# Altium schematic symbol library dungvh03-CERN_AnalogInterface.SchLib: 1053 symbols (part 9 of 12)
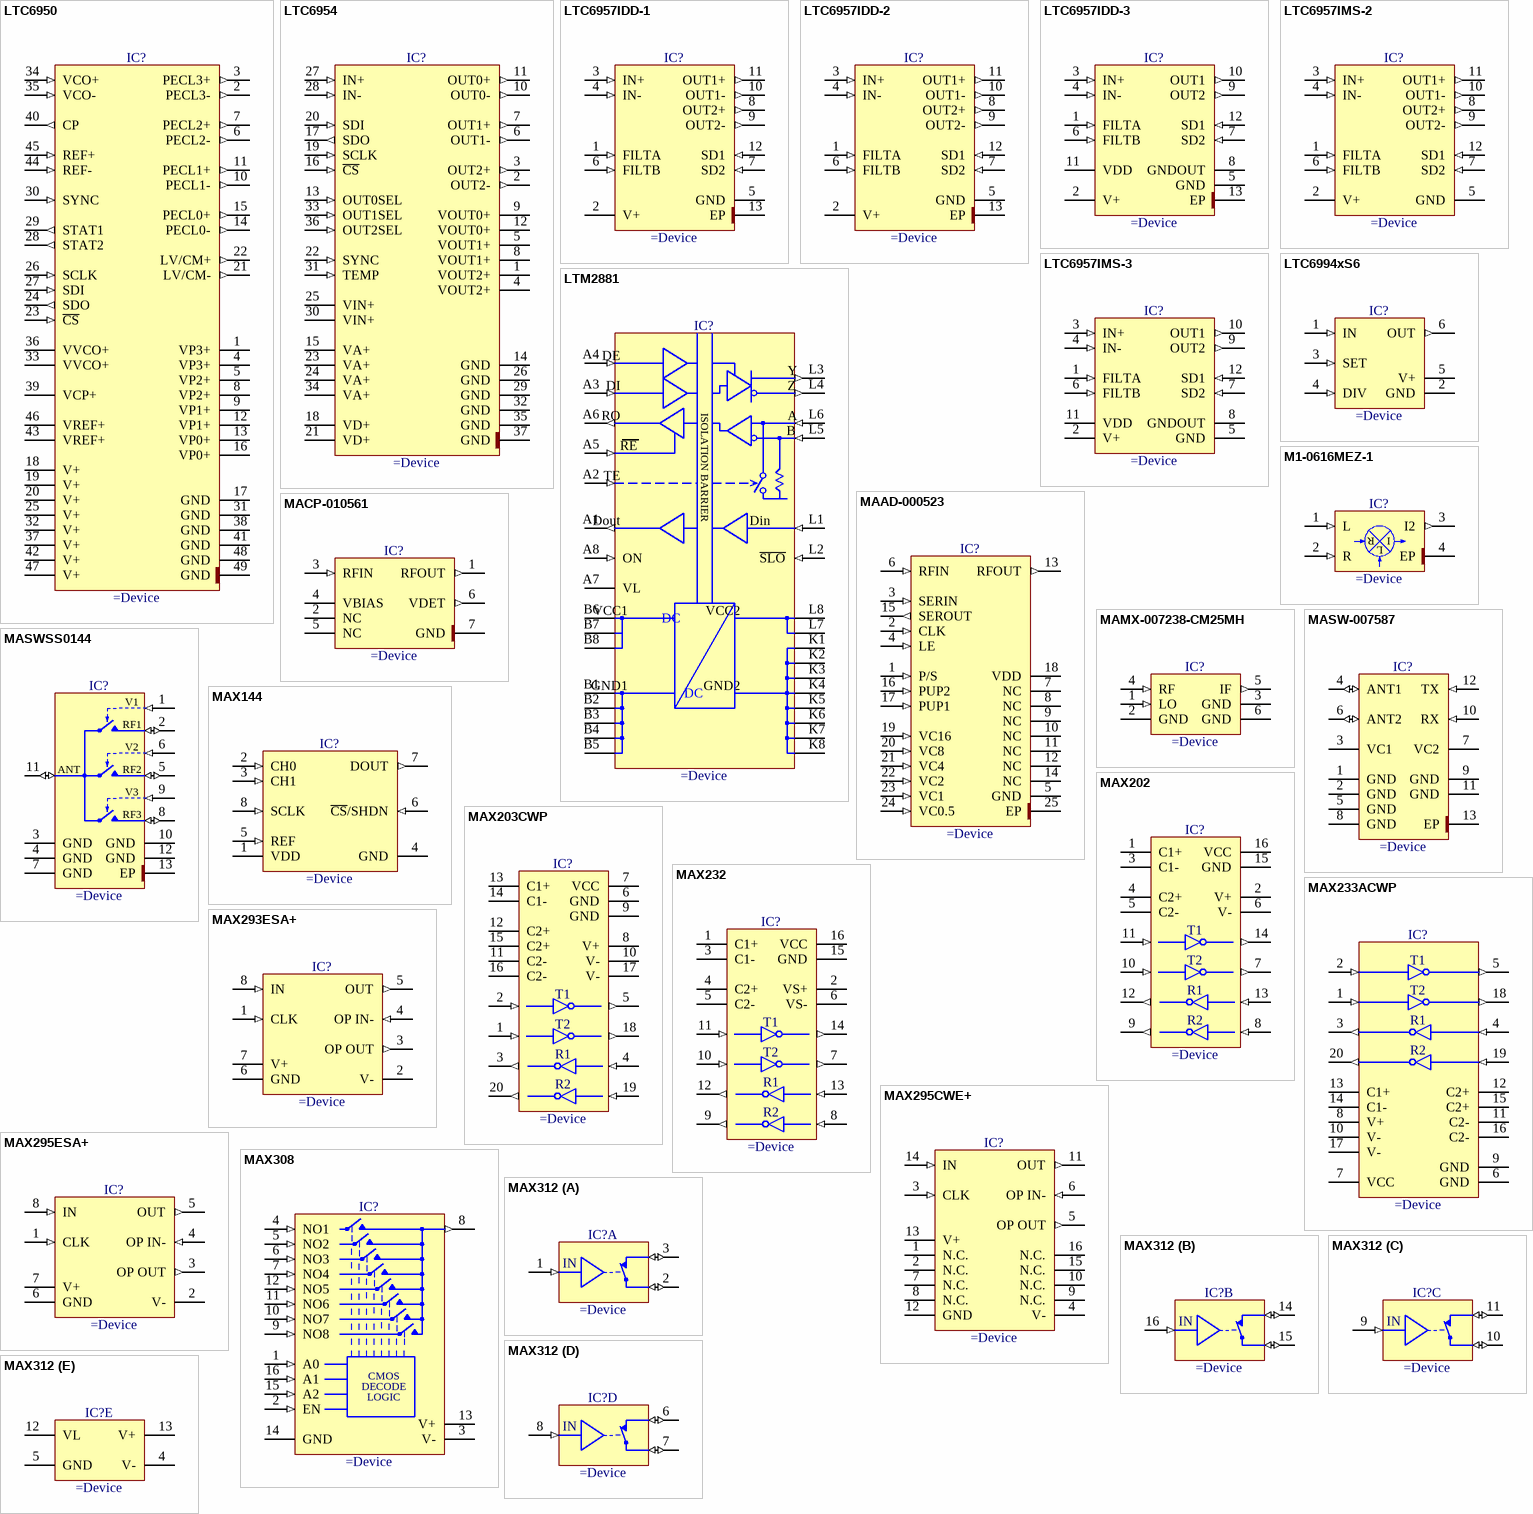
[diagram p75: symbols LTC6950 to MAX312]

## MAX202
designator IC?
+5V, RS-232 Transceivers with 0.1uF External Capacitors
pins: 1 C1+, 2 V+ (power), 3 C1-, 4 C2+, 5 C2-, 6 V- (power), 7 T2OUT (out), 8 R2IN (in), 9 R2OUT (out), 10 T2IN (in), 11 T1IN (in), 12 R1OUT (out), 13 R1IN (in), 14 T1OUT (out), 15 GND (power), 16 VCC (power)
text: T1; T2; R1; R2

## MAX203CWP
designator IC?
+5V, Dual Line RS-232 Transceivers
pins: 1 T2IN (in), 2 T1IN (in), 3 R1OUT (out), 4 R1IN (in), 5 T1OUT (out), 6 GND (power), 7 VCC (power), 8 V+ (power), 9 GND (power), 10 V- (power), 11 C2-, 12 C2+, 13 C1+, 14 C1-, 15 C2+, 16 C2-, 17 V- (power), 18 T2OUT (out), 19 R2IN (in), 20 R2OUT (out)
text: T1; T2; R1; R2

## MAX232
designator IC?
Dual RS232 Driver/Reveiver
pins: 1 C1+, 2 VS+ (power), 3 C1-, 4 C2+, 5 C2-, 6 VS- (power), 7 T2OUT (out), 8 R2IN (in), 9 R2OUT (out), 10 T2IN (in), 11 T1IN (in), 12 R1OUT (out), 13 R1IN (in), 14 T1OUT (out), 15 GND (power), 16 VCC (power)
text: T1; T2; R1; R2

## MAX233ACWP
designator IC?
Dual RS232 Driver/Reveiver (No External Caps, High Slew Rate)
pins: 1 T2IN (in), 2 T1IN (in), 3 R1OUT (out), 4 R1IN (in), 5 T1OUT (out), 6 GND (power), 7 VCC (power), 8 V+ (power), 9 GND (power), 10 V- (power), 11 C2-, 12 C2+, 13 C1+, 14 C1-, 15 C2+, 16 C2-, 17 V- (power), 18 T2OUT (out), 19 R2IN (in), 20 R2OUT (out)
text: T1; T2; R1; R2

## MAX293ESA+
designator IC?
8th-Order, Lowpass, Elliptic Switched-Capacitor Filter
pins: 1 CLK (in), 2 V- (power), 3 OP OUT (out), 4 OP IN- (in), 5 OUT (out), 6 GND (power), 7 V+ (power), 8 IN (in)

## MAX295CWE+
designator IC?
8th-Order, Lowpass, Switched-Capacitor Filter
pins: 1 N.C., 2 N.C., 3 CLK (in), 4 V- (power), 5 OP OUT (out), 6 OP IN- (in), 7 N.C., 8 N.C., 9 N.C., 10 N.C., 11 OUT (out), 12 GND (power), 13 V+ (power), 14 IN (in), 15 N.C., 16 N.C.

## MAX295ESA+
designator IC?
8th-Order, Lowpass, Switched-Capacitor Filter
pins: 1 CLK (in), 2 V- (power), 3 OP OUT (out), 4 OP IN- (in), 5 OUT (out), 6 GND (power), 7 V+ (power), 8 IN (in)

## MAX308
designator IC?
Precision, 8-Channel, High-Performance, CMOS Analog Multiplexer
pins: 1 A0 (in), 2 EN (in), 3 V- (power), 4 NO1 (in), 5 NO2 (in), 6 NO3 (in), 7 NO4 (in), 8 COM (out), 9 NO8 (in), 10 NO7 (in), 11 NO6 (in), 12 NO5 (in), 13 V+ (power), 14 GND (power), 15 A2 (in), 16 A1 (in)
text: CMOS; DECODE; LOGIC

## MAX312
designator IC?
10 Ohms Quad, SPST, CMOS Analog Switches (Normally Closed)
part A pins: 1 IN (in), 2 COM (io), 3 NO (io)
part B pins: 14 NO (io), 15 COM (io), 16 IN (in)
part C pins: 9 IN (in), 10 COM (io), 11 NO (io)
part D pins: 6 NO (io), 7 COM (io), 8 IN (in)
part E pins: 4 V- (power), 5 GND (power), 12 VL (power), 13 V+ (power)

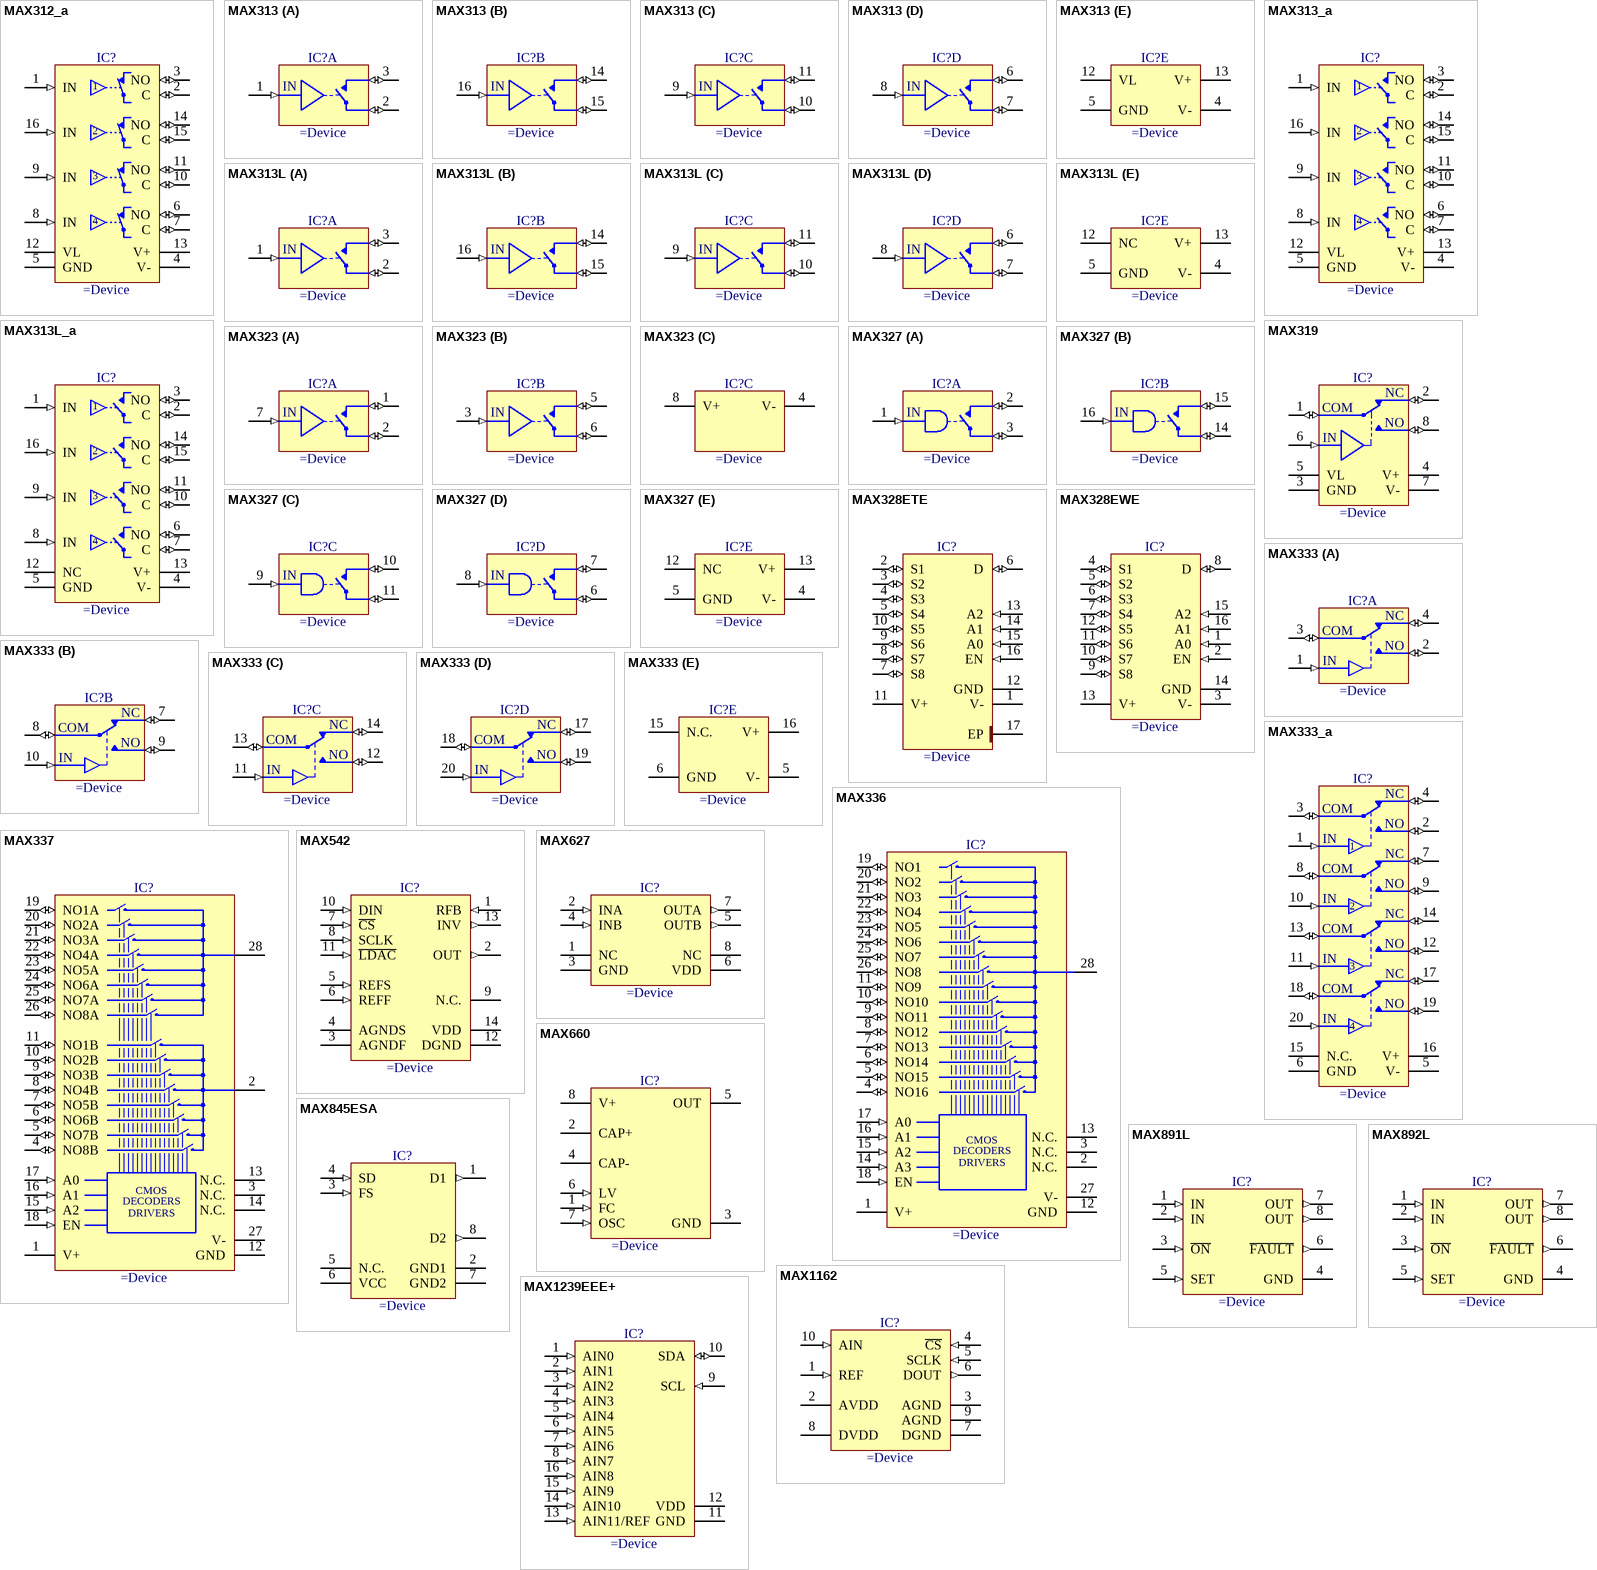
[diagram p45: symbols MAX312_a to MAX1239EEE+]

## MAX312_a
designator IC?
10 Ohms Quad, SPST, CMOS Analog Switches (Normally Closed)
pins: 1 IN (in), 2 C (io), 3 NO (io), 4 V- (power), 5 GND (power), 6 NO (io), 7 C (io), 8 IN (in), 9 IN (in), 10 C (io), 11 NO (io), 12 VL (power), 13 V+ (power), 14 NO (io), 15 C (io), 16 IN (in)

## MAX313
designator IC?
10 Ohms Quad, SPST, CMOS Analog Switches (Normally Open)
part A pins: 1 IN (in), 2 COM (io), 3 NO (io)
part B pins: 14 NO (io), 15 COM (io), 16 IN (in)
part C pins: 9 IN (in), 10 COM (io), 11 NO (io)
part D pins: 6 NO (io), 7 COM (io), 8 IN (in)
part E pins: 4 V- (power), 5 GND (power), 12 VL (power), 13 V+ (power)

## MAX313_a
designator IC?
10 Ohms Quad, SPST, CMOS Analog Switches (Normally Open)
pins: 1 IN (in), 2 C (io), 3 NO (io), 4 V- (power), 5 GND (power), 6 NO (io), 7 C (io), 8 IN (in), 9 IN (in), 10 C (io), 11 NO (io), 12 VL (power), 13 V+ (power), 14 NO (io), 15 C (io), 16 IN (in)

## MAX313L
designator IC?
10 Ohms Quad, SPST, +3V Logic-Compatible Analog Switches (Normally Open)
part A pins: 1 IN (in), 2 COM (io), 3 NO (io)
part B pins: 14 NO (io), 15 COM (io), 16 IN (in)
part C pins: 9 IN (in), 10 COM (io), 11 NO (io)
part D pins: 6 NO (io), 7 COM (io), 8 IN (in)
part E pins: 4 V- (power), 5 GND (power), 12 NC, 13 V+ (power)

## MAX313L_a
designator IC?
10 Ohms Quad, SPST, +3V Logic-Compatible Analog Switches (Normally Open)
pins: 1 IN (in), 2 C (io), 3 NO (io), 4 V- (power), 5 GND (power), 6 NO (io), 7 C (io), 8 IN (in), 9 IN (in), 10 C (io), 11 NO (io), 12 NC, 13 V+ (power), 14 NO (io), 15 C (io), 16 IN (in)

## MAX319
designator IC?
Precision, Single SPDT CMOS Analog Switch
pins: 1 S (io), 2 NC (io), 3 GND (power), 4 V+ (power), 5 VL (power), 6 IN (in), 7 V- (power), 8 NO (io)
text: COM

## MAX323
designator IC?
Precision, Single-Supply, Dual SPST Analog Switches (Normally Open)
part A pins: 1 NO (io), 2 COM (io), 7 IN (in)
part B pins: 3 IN (in), 5 NO (io), 6 COM (io)
part C pins: 4 V- (power), 8 V+ (power)

## MAX327
designator IC?
Quad, SPST, Utra-Low Leakage CMOS Analog Switches (Normally Open)
part A pins: 1 IN (in), 2 NO (io), 3 COM (io)
part B pins: 14 COM (io), 15 NO (io), 16 IN (in)
part C pins: 9 IN (in), 10 NO (io), 11 COM (io)
part D pins: 6 COM (io), 7 NO (io), 8 IN (in)
part E pins: 4 V- (power), 5 GND (power), 12 NC, 13 V+ (power)

## MAX328ETE
designator IC?
Ultra-Low Leakage Monolithic CMOS Analog Multiplexers
pins: 1 V- (power), 2 S1 (io), 3 S2 (io), 4 S3 (io), 5 S4 (io), 6 D (io), 7 S8 (io), 8 S7 (io), 9 S6 (io), 10 S5 (io), 11 V+ (power), 12 GND (power), 13 A2 (in), 14 A1 (in), 15 A0 (in), 16 EN (in), 17 EP (power)

## MAX328EWE
designator IC?
Ultra-Low Leakage Monolithic CMOS Analog Multiplexers
pins: 1 A0 (in), 2 EN (in), 3 V- (power), 4 S1 (io), 5 S2 (io), 6 S3 (io), 7 S4 (io), 8 D (io), 9 S8 (io), 10 S7 (io), 11 S6 (io), 12 S5 (io), 13 V+ (power), 14 GND (power), 15 A2 (in), 16 A1 (in)

## MAX333
designator IC?
Quad SPDT CMOS Analog Switch
part A pins: 1 IN (in), 2 NO (io), 3 COM (io), 4 NC (io)
part B pins: 7 NC (io), 8 COM (io), 9 NO (io), 10 IN (in)
part C pins: 11 IN (in), 12 NO (io), 13 COM (io), 14 NC (io)
part D pins: 17 NC (io), 18 COM (io), 19 NO (io), 20 IN (in)
part E pins: 5 V- (power), 6 GND (power), 15 N.C., 16 V+ (power)

## MAX333_a
designator IC?
Quad SPDT CMOS Analog Switch
pins: 1 IN1 (in), 2 NO1 (io), 3 COM1 (io), 4 NC1 (io), 5 V- (power), 6 GND (power), 7 NC2 (io), 8 COM2 (io), 9 NO2 (io), 10 IN2 (in), 11 IN3 (in), 12 NO3 (io), 13 COM3 (io), 14 NC3 (io), 15 N.C., 16 V+ (power), 17 NC4 (io), 18 COM4 (io), 19 NO4 (io), 20 IN4 (in)
text: NC; COM; NO; IN

## MAX336
designator IC?
16-Channel, Low-Leakage, CMOS Analog Multiplexers
pins: 1 V+ (power), 2 N.C., 3 N.C., 4 NO16 (io), 5 NO15 (io), 6 NO14 (io), 7 NO13 (io), 8 NO12 (io), 9 NO11 (io), 10 NO10 (io), 11 NO9 (io), 12 GND (power), 13 N.C., 14 A3 (in), 15 A2 (in), 16 A1 (in), 17 A0 (in), 18 EN (in), 19 NO1 (io), 20 NO2 (io), 21 NO3 (io), 22 NO4 (io), 23 NO5 (io), 24 NO6 (io), 25 NO7 (io), 26 NO8 (io), 27 V- (power), 28 COM (power)
text: CMOS; DECODERS; DRIVERS

## MAX337
designator IC?
Dual 8-Channel, Low-Leakage, CMOS Analog Multiplexers
pins: 1 V+ (power), 2 COMB, 3 N.C., 4 NO8B (io), 5 NO7B (io), 6 NO6B (io), 7 NO5B (io), 8 NO4B (io), 9 NO3B (io), 10 NO2B (io), 11 NO1B (io), 12 GND (power), 13 N.C., 14 N.C., 15 A2 (in), 16 A1 (in), 17 A0 (in), 18 EN (in), 19 NO1A (io), 20 NO2A (io), 21 NO3A (io), 22 NO4A (io), 23 NO5A (io), 24 NO6A (io), 25 NO7A (io), 26 NO8A (io), 27 V- (power), 28 COMA (power)
text: CMOS; DECODERS; DRIVERS

## MAX542
designator IC?
+5V, Serial-Input, Voltage-Output, 16-Bit ±1LSB DAC
pins: 1 RFB (in), 2 OUT (out), 3 AGNDF (power), 4 AGNDS (power), 5 REFS (in), 6 REFF (in), 7 ~{CS} (in), 8 SCLK (in), 9 N.C., 10 DIN (in), 11 ~{LDAC} (in), 12 DGND (power), 13 INV (out), 14 VDD (power)

## MAX627
designator IC?
Dual Power MOSFET Drivers
pins: 1 NC, 2 INA (in), 3 GND (power), 4 INB (in), 5 OUTB (out), 6 VDD (power), 7 OUTA (out), 8 NC

## MAX660
designator IC?
CMOS Monolithic Voltage Converter
pins: 1 FC (in), 2 CAP+, 3 GND (power), 4 CAP-, 5 OUT (power), 6 LV (in), 7 OSC (in), 8 V+ (power)

## MAX845ESA
designator IC?
Isolated Transformer Driver for PCMCIA Applications
pins: 1 D1 (out) "Voltage Reference", 2 GND1 (power) "Non-Inverting Input", 3 FS (in) "Ground", 4 SD (in) "Ground", 5 N.C. "Chip Select Bar", 6 VCC (power) "Inverting Input", 7 GND2 (power) "Serial Data Output", 8 D2 (out) "Serial Clock"

## MAX891L
designator IC?
Current-Limited, High-Side P-Channel Switches with Thermal Shutdown
pins: 1 IN (in), 2 IN (in), 3 ~{ON} (in), 4 GND (power), 5 SET (in), 6 ~{FAULT} (out), 7 OUT (out), 8 OUT (out)

## MAX892L
designator IC?
Current-Limited, High-Side P-Channel Switches with Thermal Shutdown
pins: 1 IN (in), 2 IN (in), 3 ~{ON} (in), 4 GND (power), 5 SET (in), 6 ~{FAULT} (out), 7 OUT (out), 8 OUT (out)

## MAX1162
designator IC?
16-Bit, +5V, 200ksps ADC with 10uA Shutdown
pins: 1 REF (in) "External Reference Voltage Input", 2 AVDD (power) "Analog +5V Supply Voltage.", 3 AGND (power) "Analog Ground", 4 ~{CS} (in) "Active-Low Chip-Select Input", 5 SCLK (in) "Serial Clock Input", 6 DOUT (out) "Serial Data Output", 7 DGND (power) "Digital Ground", 8 DVDD (power) "Digital Supply Voltage.", 9 AGND (power) "Analog Ground.", 10 AIN (in) "Analog Input"

## MAX1239EEE+
designator IC?
2.7V to 3.6V, Low-Power, 12 Input Channels, 2-Wire Serial, 12-Bit ADC
pins: 1 AIN0 (in), 2 AIN1 (in), 3 AIN2 (in), 4 AIN3 (in), 5 AIN4 (in), 6 AIN5 (in), 7 AIN6 (in), 8 AIN7 (in), 9 SCL (in), 10 SDA (io), 11 GND (power), 12 VDD (power), 13 AIN11/REF (in), 14 AIN10 (in), 15 AIN9 (in), 16 AIN8 (in)

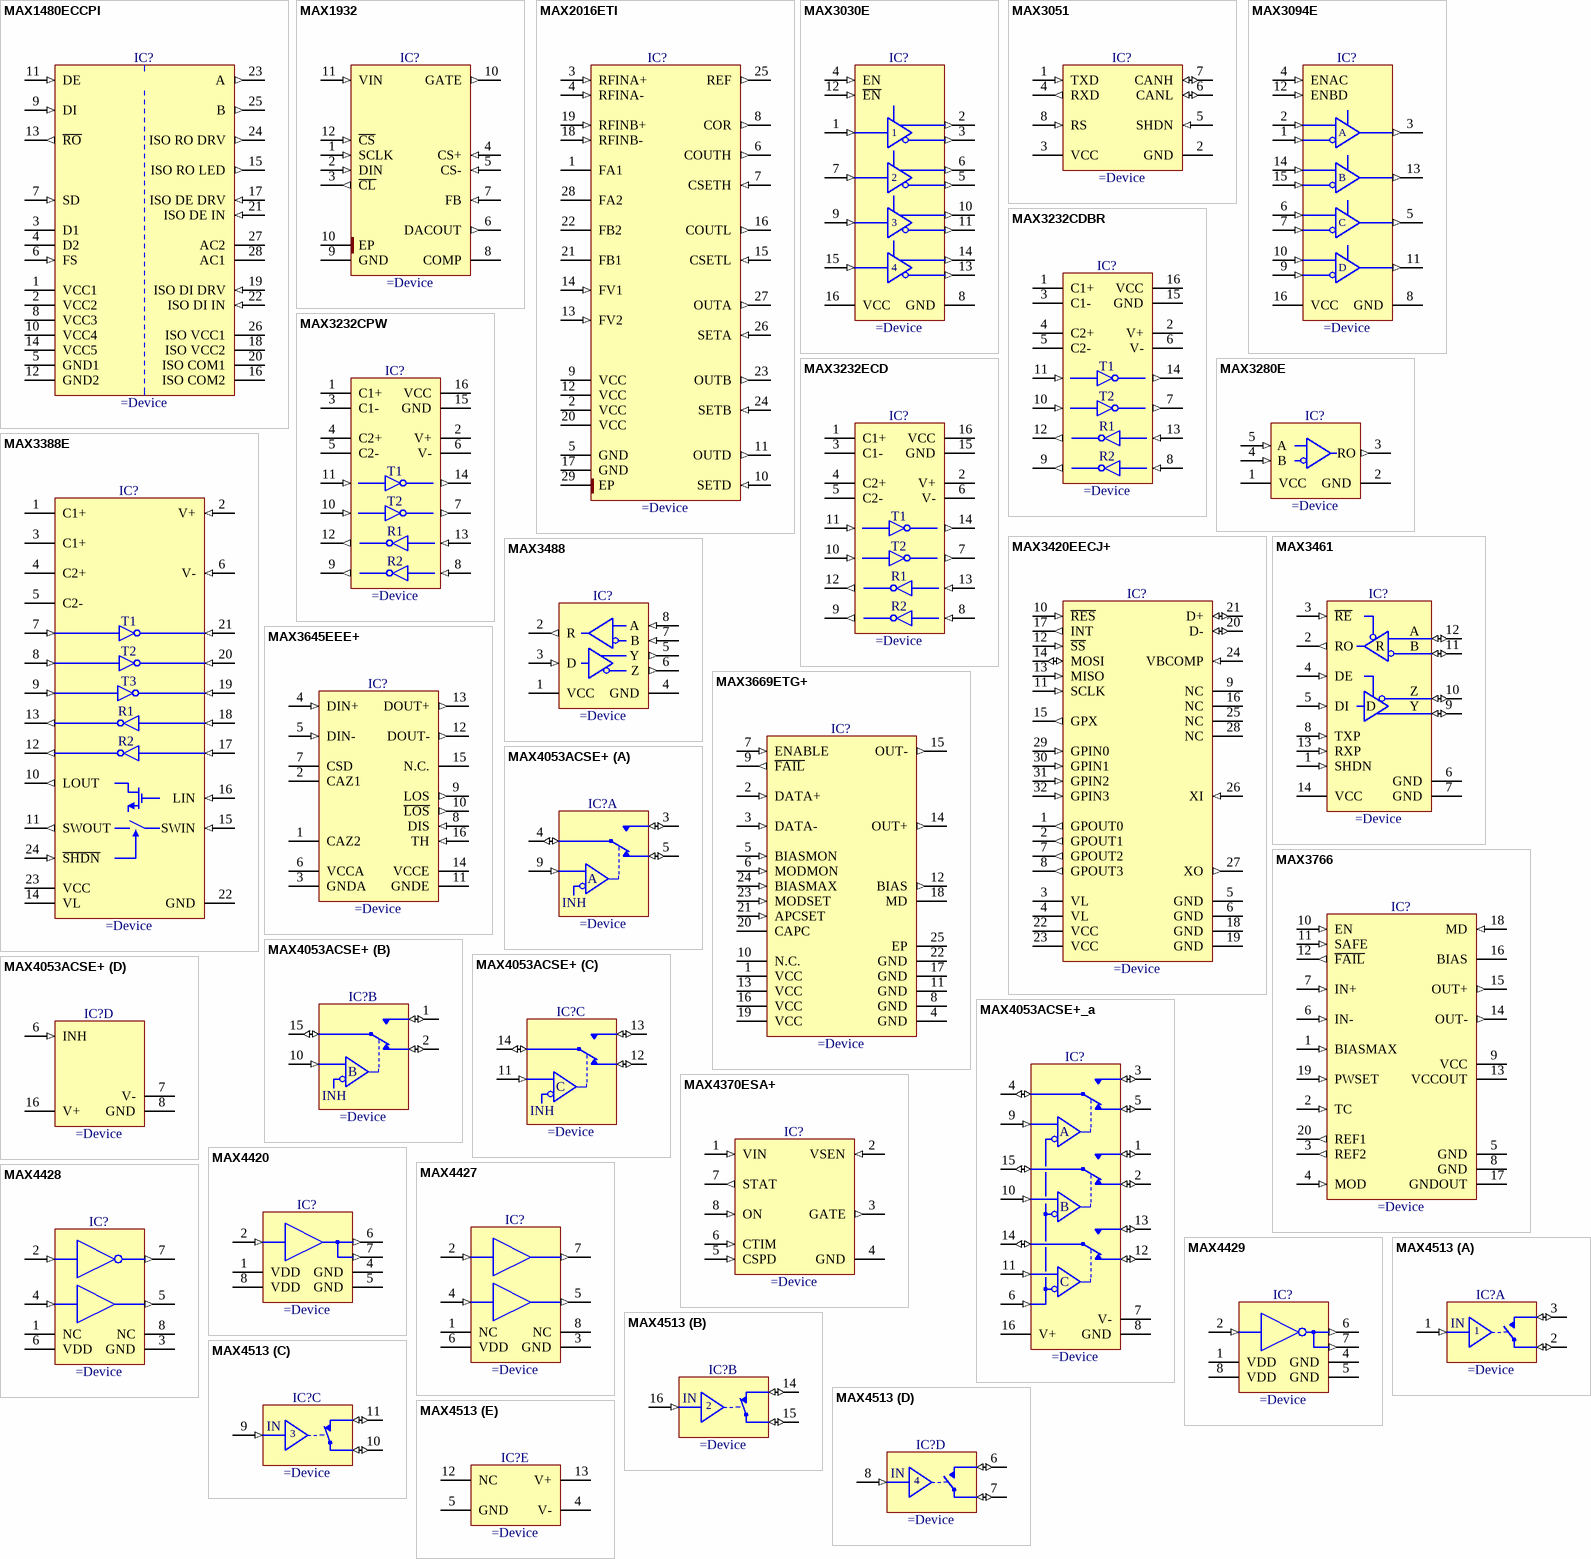
[diagram p46: symbols MAX1480ECCPI to MAX4513]

## MAX1480ECCPI
designator IC?
±15kV ESD-Protected, Isolated RS-485/RS-422 Data Interface
pins: 1 VCC1 (power), 2 VCC2 (power), 3 D1, 4 D2, 5 GND1 (power), 6 FS (in), 7 SD (in), 8 VCC3 (power), 9 DI (in), 10 VCC4 (power), 11 DE (in), 12 GND2 (power), 13 ~{RO} (out), 14 VCC5 (power), 15 ISO RO LED (out), 16 ISO COM2 (power), 17 ISO DE DRV (in), 18 ISO VCC2 (power), 19 ISO DI DRV (in), 20 ISO COM1 (power), 21 ISO DE IN (in), 22 ISO DI IN (in), 23 A (out), 24 ISO RO DRV (out), 25 B (out), 26 ISO VCC1 (power), 27 AC2, 28 AC1

## MAX1932
designator IC?
Digitally Controlled, 0.5% Accurate, Safest APD Bias Supply
pins: 1 SCLK (in), 2 DIN (in), 3 ~{CL} (out), 4 CS+ (in), 5 CS- (in), 6 DACOUT (out), 7 FB (in), 8 COMP, 9 GND (power), 10 GATE (out), 10 EP (power), 11 VIN (in), 12 ~{CS} (in)

## MAX2016ETI
designator IC?
LF-to-2.5GHz Dual Logarithmic Detector/Controller for Power, Gain, and VSWR Measurements
pins: 1 FA1, 2 VCC (power), 3 RFINA+ (in), 4 RFINA- (in), 5 GND (power), 6 COUTH (out), 7 CSETH (in), 8 COR (out), 9 VCC (power), 10 SETD (in), 11 OUTD (out), 12 VCC (power), 13 FV2 (in), 14 FV1 (in), 15 CSETL (in), 16 COUTL (out), 17 GND (power), 18 RFINB- (in), 19 RFINB+ (in), 20 VCC (power), 21 FB1, 22 FB2, 23 OUTB (out), 24 SETB (in), 25 REF (out), 26 SETA (in), 27 OUTA (out), 28 FA2, 29 EP (power)

## MAX3030E
designator IC?
±15kV ESD-Protected, 3.3V Quad RS-422 Transmitter
pins: 1 DI1 (in), 2 DO1+ (out), 3 DO1- (out), 4 EN (in), 5 DO2- (out), 6 DO2+ (out), 7 DI2 (in), 8 GND (power), 9 DI3 (in), 10 DO3+ (out), 11 DO3- (out), 12 ~{EN} (in), 13 DO4- (out), 14 DO4+ (out), 15 DI4 (in), 16 VCC (power)

## MAX3051
designator IC?
+3.3V, 1Mbps, Low-Supply-Current CAN Transceiver
pins: 1 TXD (in), 2 GND (power), 3 VCC (power), 4 RXD (out), 5 SHDN (in), 6 CANL (io), 7 CANH (io), 8 RS (in)

## MAX3094E
designator IC?
±15kV ESD-Protected, 10Mbps, 3V, Low-Power Quad RS-422/RS-485 Receivers
pins: 1 A- (in), 2 A+ (in), 3 YA (out), 4 ENAC (in), 5 YC (out), 6 C+ (in), 7 C- (in), 8 GND (power), 9 D- (in), 10 D+ (in), 11 YD (out), 12 ENBD (in), 13 YB (out), 14 B+ (in), 15 B- (in), 16 VCC (power)
text: A; B; C; D

## MAX3232CDBR
designator IC?
3-V To 5.5-V Multichannel RS-232 Line Driver/Receiver With ±15kV IEC ESD Protection
pins: 1 C1+, 2 V+ (power), 3 C1-, 4 C2+, 5 C2-, 6 V- (power), 7 T2OUT (out), 8 R2IN (in), 9 R2OUT (out), 10 T2IN (in), 11 T1IN (in), 12 R1OUT (out), 13 R1IN (in), 14 T1OUT (out), 15 GND (power), 16 VCC (power)
text: T1; T2; R1; R2

## MAX3232CPW
designator IC?
3-V To 5.5-V Multichannel RS-232 Line Driver/Receiver With ±15kV IEC ESD Protection
pins: 1 C1+, 2 V+ (power), 3 C1-, 4 C2+, 5 C2-, 6 V- (power), 7 T2OUT (out), 8 R2IN (in), 9 R2OUT (out), 10 T2IN (in), 11 T1IN (in), 12 R1OUT (out), 13 R1IN (in), 14 T1OUT (out), 15 GND (power), 16 VCC (power)
text: T1; T2; R1; R2

## MAX3232ECD
designator IC?
3-V To 5.5-V Multichannel RS-232 Line Driver/Receiver With ±15kV IEC ESD Protection
pins: 1 C1+, 2 V+ (power), 3 C1-, 4 C2+, 5 C2-, 6 V- (power), 7 T2OUT (out), 8 R2IN (in), 9 R2OUT (out), 10 T2IN (in), 11 T1IN (in), 12 R1OUT (out), 13 R1IN (in), 14 T1OUT (out), 15 GND (power), 16 VCC (power)
text: T1; T2; R1; R2

## MAX3280E
designator IC?
±15kV ESD-Protected 52Mbps, 3V to 5.5V, RS-485/RS-422 True Fail-Safe Receiver
pins: 1 VCC (power), 2 GND (power), 3 RO (out), 4 B (in), 5 A (in)

## MAX3388E
designator IC?
2.5V, ±15kV ESD-Protected RS-232 Transceivers for PDAs and Cell Phones
footprint TSOP65P640-24AN (TSOP, 24-Leads, Body 7.8x4.4mm, Pitch 0.65mm, IPC Medium Density)
pins: 1 C1+, 2 V+ (in), 3 C1+, 4 C2+, 5 C2-, 6 V- (in), 7 T1IN (in), 8 T2IN (in), 9 T3IN (in), 10 LOUT (out), 11 SWOUT (out), 12 R2OUT (out), 13 R1OUT (out), 14 VL (power), 15 SWIN (in), 16 LIN (in), 17 R2IN (in), 18 R1IN (in), 19 T3OUT (in), 20 T2OUT (in), 21 T1OUT (in), 22 GND (power), 23 VCC (power), 24 ~{SHDN} (in)
text: T1; T2; T3; R1; R2

## MAX3420EECJ+
designator IC?
USB Peripheral Controller with SPI Interface
pins: 1 GPOUT0 (out), 2 GPOUT1 (out), 3 VL (power), 4 VL (power), 5 GND (power), 6 GND (power), 7 GPOUT2 (out), 8 GPOUT3 (out), 9 NC, 10 ~{RES} (in), 11 SCLK (in), 12 ~{SS} (in), 13 MISO (in), 14 MOSI (io), 15 GPX (out), 16 NC, 17 INT (out), 18 GND (power), 19 GND (power), 20 D- (io), 21 D+ (io), 22 VCC (power), 23 VCC (power), 24 VBCOMP (in), 25 NC, 26 XI (in), 27 XO (out), 28 NC, 29 GPIN0 (in), 30 GPIN1 (in), 31 GPIN2 (in), 32 GPIN3 (in)

## MAX3461
designator IC?
+5V, Fail-Safe, 20Mbps, Full Duplex Profibus RS-485/RS-422 Transceiver
pins: 1 SHDN (in), 2 RO (out), 3 ~{RE} (in), 4 DE (in), 5 DI (in), 6 GND (power), 7 GND (power), 8 TXP (in), 9 Y (io), 10 Z (io), 11 B (io), 12 A (io), 13 RXP (in), 14 VCC (power)
text: R; D

## MAX3488
designator IC?
3.3V-Powered, ±15kV ESD-Protected, 0.25 Mbps and Slew-Rate-Limited True RS-485/RS-422 Transceiver
pins: 1 VCC (power), 2 R (out), 3 D (in), 4 GND (power), 5 Y (out), 6 Z (out), 7 B (in), 8 A (in)

## MAX3645EEE+
designator IC?
+2.97V to +5.5V, 125Mbps to 200Mbps Limiting Amplifier with Loss-of-Signal Detector
pins: 1 CAZ2, 2 CAZ1, 3 GNDA (power), 4 DIN+ (in), 5 DIN- (in), 6 VCCA (power), 7 CSD, 8 DIS (in), 9 LOS (out), 10 ~{LOS} (out), 11 GNDE (power), 12 DOUT- (out), 13 DOUT+ (out), 14 VCCE (power), 15 N.C., 16 TH (in)

## MAX3669ETG+
designator IC?
+3.3V, 622Mbps SDH/SONET Laser Driver with Current Monitors and APC
pins: 1 VCC (power), 2 DATA+ (in), 3 DATA- (in), 4 GND (power), 5 BIASMON (in), 6 MODMON (in), 7 ENABLE (in), 8 GND (power), 9 ~{FAIL} (out), 10 N.C., 11 GND (power), 12 BIAS (out), 13 VCC (power), 14 OUT+ (out), 15 OUT- (out), 16 VCC, 17 GND (power), 18 MD, 19 VCC (power), 20 CAPC, 21 APCSET (in), 22 GND (power), 23 MODSET (in), 24 BIASMAX (in), 25 EP (power)

## MAX3766
designator IC?
622Mbps LAN/WAN Laser Driver with Automatic Power Control and Safety Shutdown
pins: 1 BIASMAX (in), 2 TC (in), 3 REF2 (out), 4 MOD (in), 5 GND (power), 6 IN- (in), 7 IN+ (in), 8 GND (power), 9 VCC (power), 10 EN (in), 11 SAFE (in), 12 ~{FAIL} (out), 13 VCCOUT (power), 14 OUT- (out), 15 OUT+ (out), 16 BIAS, 17 GNDOUT (power), 18 MD (in), 19 PWSET (in), 20 REF1 (out)

## MAX4053ACSE+
designator IC?
Low-Voltage, 3-Channel CMOS Analog Multiplexers/Switches
part A pins: 3 NOA (io), 4 COMA (io), 5 NCA (io), 9 ADDA (in)
part B pins: 1 NOB (io), 2 NCB (io), 10 ADDB (in), 15 COMB (io)
part C pins: 11 ADDC (in), 12 NCC (io), 13 NOC (io), 14 COMC (io)
part D pins: 6 INH (in), 7 V- (power), 8 GND (power), 16 V+ (power)
part A text: A
part B text: B
part C text: C

## MAX4053ACSE+_a
designator IC?
Low-Voltage, 3-Channel CMOS Analog Multiplexers/Switches
pins: 1 NOB (io), 2 NCB (io), 3 NOA (io), 4 COMA (io), 5 NCA (io), 6 INH (in), 7 V- (power), 8 GND (power), 9 ADDA (in), 10 ADDB (in), 11 ADDC (in), 12 NCC (io), 13 NOC (io), 14 COMC (io), 15 COMB (io), 16 V+ (power)
text: A; B; C

## MAX4370ESA+
designator IC?
Current-Regulating Hot-Swap Controller with DualSpeed/BiLevel Fault Protection
pins: 1 VIN (in), 2 VSEN (in), 3 GATE (out), 4 GND (power), 5 CSPD (in), 6 CTIM (in), 7 STAT (out), 8 ON (in)

## MAX4420
designator IC?
Single MOSFET Driver, Non-Inverting Outputs
pins: 1 VDD (power), 2 IN (in), 4 GND (power), 5 GND (power), 6 OUT (out), 7 OUT (out), 8 VDD (power)

## MAX4427
designator IC?
Dual High-Speed 1.5A Noninverting MOSFET Drivers
pins: 1 NC, 2 IN (in), 3 GND (power), 4 IN (in), 5 OUT (out), 6 VDD (power), 7 OUT (out), 8 NC

## MAX4428
designator IC?
Dual High-Speed 1.5A Inverting/Noninverting MOSFET Drivers
pins: 1 NC, 2 IN (in), 3 GND (power), 4 IN (in), 5 OUT (out), 6 VDD (power), 7 ~{OUTA} (out), 8 NC

## MAX4429
designator IC?
Single MOSFET Driver, Inverting Outputs
pins: 1 VDD (power), 2 IN (in), 4 GND (power), 5 GND (power), 6 OUT (out), 7 OUT (out), 8 VDD (power)

## MAX4513
designator IC?
Quad, Rail-to-Rail, Fault-Protected, SPST Analog Switches (2 Normally Open + 2 Normally Close)
part A pins: 1 IN (in), 2 COM (io), 3 NO (io)
part B pins: 14 NC (io), 15 COM (io), 16 IN (in)
part C pins: 9 IN (in), 10 COM (io), 11 NC (io)
part D pins: 6 NO (io), 7 COM (io), 8 IN (in)
part E pins: 4 V- (power), 5 GND (power), 12 NC, 13 V+ (power)

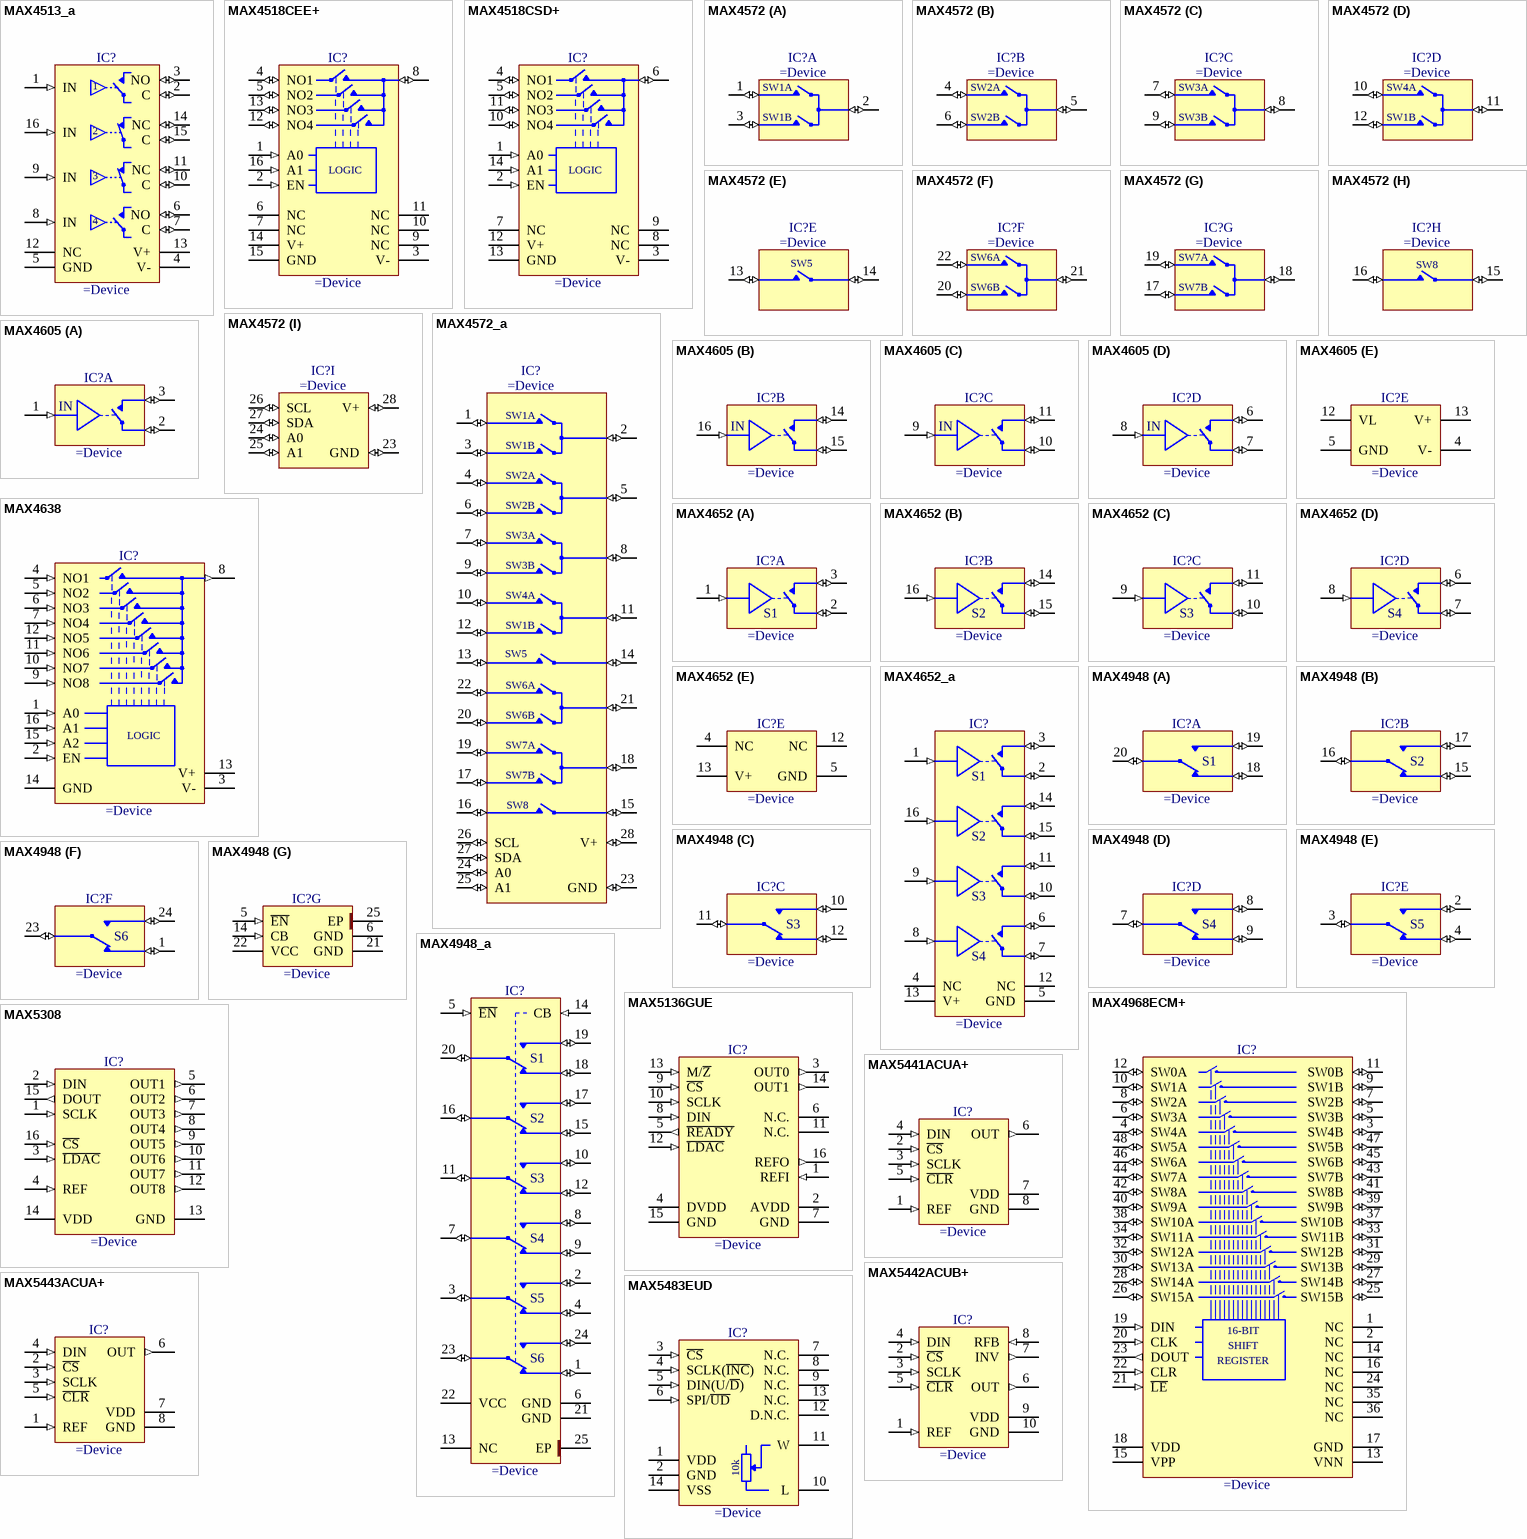
[diagram p47: symbols MAX4513_a to MAX5483EUD]

## MAX4513_a
designator IC?
Rail-to-Rail, Fault-Protected, SPST Analog Switches (2 Normally Open + 2 Normally Close)
pins: 1 IN (in), 2 C (io), 3 NO (io), 4 V- (power), 5 GND (power), 6 NO (io), 7 C (io), 8 IN (in), 9 IN (in), 10 C (io), 11 NC (io), 12 NC, 13 V+ (power), 14 NC (io), 15 C (io), 16 IN (in)

## MAX4518CEE+
designator IC?
Precision, 4-Channel Low-Voltage, CMOS Analog Multiplexer
pins: 1 A0 (in), 2 EN (in), 3 V- (power), 4 NO1 (io), 5 NO2 (io), 6 NC, 7 NC, 8 COM (io), 9 NC, 10 NC, 11 NC, 12 NO4 (io), 13 NO3 (io), 14 V+ (power), 15 GND (power), 16 A1 (in)
text: LOGIC

## MAX4518CSD+
designator IC?
Precision, 4-Channel Low-Voltage, CMOS Analog Multiplexer
pins: 1 A0 (in), 2 EN (in), 3 V- (power), 4 NO1 (io), 5 NO2 (io), 6 COM (io), 7 NC, 8 NC, 9 NC, 10 NO4 (io), 11 NO3 (io), 12 V+ (power), 13 GND (power), 14 A1 (in)
text: LOGIC

## MAX4572
designator IC?
2 x SPST + 6 x SPDT, Serially Controlled, Clickless Audio/Video Switches
part A pins: 1 NO (io), 2 COM (io), 3 NO (io)
part B pins: 4 NO (io), 5 COM (io), 6 NO (io)
part C pins: 7 NO (io), 8 COM (io), 9 NO (io)
part D pins: 10 NO (io), 11 COM (io), 12 NO (io)
part E pins: 13 NO (io), 14 COM (io)
part F pins: 20 NO (io), 21 COM (io), 22 NO (io)
part G pins: 17 NO (io), 18 COM (io), 19 NO (io)
part H pins: 15 COM (io), 16 NO (io)
part I pins: 23 GND (io), 24 A0 (io), 25 A1 (io), 26 SCL (io), 27 SDA (io), 28 V+ (io)
part A text: SW1A; SW1B
part B text: SW2A; SW2B
part C text: SW3A; SW3B
part D text: SW4A; SW1B
part E text: SW5
part F text: SW6A; SW6B
part G text: SW7A; SW7B
part H text: SW8

## MAX4572_a
designator IC?
2 x SPST + 6 x SPDT, Serially Controlled, Clickless Audio/Video Switches
pins: 1 NO1A (io), 2 COM1 (io), 3 NO1B (io), 4 NO2A (io), 5 COM2 (io), 6 NO2B (io), 7 NO3A (io), 8 COM3 (io), 9 NO3B (io), 10 NO4A (io), 11 COM4 (io), 12 NO4B (io), 13 NO5 (io), 14 VOM5 (io), 15 COM8 (io), 16 NO8 (io), 17 NO7B (io), 18 COM7 (io), 19 NO7A (io), 20 NO6B (io), 21 COM6 (io), 22 NO6A (io), 23 GND (io), 24 A0 (io), 25 A1 (io), 26 SCL (io), 27 SDA (io), 28 V+ (io)
text: SW1A; SW1B; SW2A; SW2B; SW3A; SW3B; SW4A; SW5; SW6A; SW6B; SW7A; SW7B; SW8

## MAX4605
designator IC?
5 Ohms Quad, SPST, CMOS Analog Switches
part A pins: 1 IN (in), 2 COM (io), 3 NO (io)
part B pins: 14 NO (io), 15 COM (io), 16 IN (in)
part C pins: 9 IN (in), 10 COM (io), 11 NO (io)
part D pins: 6 NO (io), 7 COM (io), 8 IN (in)
part E pins: 4 V- (power), 5 GND (power), 12 VL (power), 13 V+ (power)

## MAX4638
designator IC?
3.5 Ohms, Single 8:1 and Dual 4:1, Low-Voltage Analog Multiplexers
pins: 1 A0 (in), 2 EN (in), 3 V- (power), 4 NO1 (in), 5 NO2 (in), 6 NO3 (in), 7 NO4 (in), 8 COM (out), 9 NO8 (in), 10 NO7 (in), 11 NO6 (in), 12 NO5 (in), 13 V+ (power), 14 GND (power), 15 A2 (in), 16 A1 (in)
text: LOGIC

## MAX4652
designator IC?
Low Voltage, 4 Ohm, Quad, SPST, CMOS Analog Switches (Normally Open)
part A pins: 1 IN (in), 2 COM (io), 3 NO (io)
part B pins: 14 NO (io), 15 COM (io), 16 IN (in)
part C pins: 9 IN (in), 10 COM (io), 11 NO (io)
part D pins: 6 NO (io), 7 COM (io), 8 IN (in)
part E pins: 4 NC, 5 GND (power), 12 NC, 13 V+ (power)
part A text: S1
part B text: S2
part C text: S3
part D text: S4

## MAX4652_a
designator IC?
Low Voltage, 4 Ohm, Quad, SPST, CMOS Analog Switches (Normally Open)
pins: 1 IN1 (in), 2 COM1 (io), 3 NO1 (io), 4 NC, 5 GND (power), 6 NO4 (io), 7 COM4 (io), 8 IN4 (in), 9 IN3 (in), 10 COM3 (io), 11 NO3 (io), 12 NC, 13 V+ (power), 14 NO2 (io), 15 COM2 (io), 16 IN2 (in)
text: S1; S2; S3; S4

## MAX4948
designator IC?
Hex SPDT Data Switch
part A pins: 18 NC (io), 19 NO (io), 20 COM (io)
part B pins: 15 NC (io), 16 COM (io), 17 NO (io)
part C pins: 10 NO (io), 11 COM (io), 12 NC (io)
part D pins: 7 COM (io), 8 NO (io), 9 NC (io)
part E pins: 2 NO (io), 3 COM (io), 4 NC (io)
part F pins: 1 NC (io), 23 COM (io), 24 NO (io)
part G pins: 5 ~{EN} (in), 6 GND (power), 14 CB (in), 21 GND (power), 22 VCC (power), 25 EP (power)
part A text: S1
part B text: S2
part C text: S3
part D text: S4
part E text: S5
part F text: S6

## MAX4948_a
designator IC?
Hex SPDT Data Switch
pins: 1 NC6 (io), 2 NO5 (io), 3 COM5 (io), 4 NC5 (io), 5 ~{EN} (in), 6 GND (power), 7 COM4 (io), 8 NO4 (io), 9 NC4 (io), 10 NO3 (io), 11 COM3 (io), 12 NC3 (io), 13 NC, 14 CB (in), 15 NC2 (io), 16 COM2 (io), 17 NO2 (io), 18 NC1 (io), 19 NO1 (io), 20 COM1 (io), 21 GND (power), 22 VCC (power), 23 COM6 (io), 24 NO6 (io), 25 EP (power)
text: S1; S2; S3; S4; S5; S6

## MAX4968ECM+
designator IC?
16-Channel, Linear, High-Voltage Analog Switches
pins: 1 NC, 2 NC, 3 SW4B (io), 4 SW4A (io), 5 SW3B (io), 6 SW3A (io), 7 SW2B (io), 8 SW2A (io), 9 SW1B (io), 10 SW1A (io), 11 SW0B (io), 12 SW0A (io), 13 VNN (power), 14 NC, 15 VPP (power), 16 NC, 17 GND (power), 18 VDD (power), 19 DIN (in), 20 CLK (in), 21 ~{LE} (in), 22 CLR (in), 23 DOUT (out), 24 NC, 25 SW15B (io), 26 SW15A (io), 27 SW14B (io), 28 SW14A (io), 29 SW13B (io), 30 SW13A (io), 31 SW12B (io), 32 SW12A (io), 33 SW11B (io), 34 SW11A (io), 35 NC, 36 NC, 37 SW10B (io), 38 SW10A (io), 39 SW9B (io), 40 SW9A (io), 41 SW8B (io), 42 SW8A (io), 43 SW7B (io), 44 SW7A (io), 45 SW6B (io), 46 SW6A (io), 47 SW5B (io), 48 SW5A (io)
text: 16-BIT; SHIFT; REGISTER

## MAX5136GUE
designator IC?
Pin-/Software-Compatible, Dual 16-Bit, Voltage-Output DAC
pins: 1 REFI (in), 2 AVDD (power), 3 OUT0 (out), 4 DVDD (power), 5 ~{READY} (out), 6 N.C., 7 GND (power), 8 DIN (in), 9 ~{CS} (in), 10 SCLK (in), 11 N.C., 12 ~{LDAC} (in), 13 M/~{Z} (in), 14 OUT1 (out), 15 GND (power), 16 REFO (out)

## MAX5308
designator IC?
Low-Power, Low-Glitch, Octal 10-Bit Voltage-Output DAC With Serial Interface
pins: 1 SCLK (in), 2 DIN (in), 3 ~{LDAC} (in), 4 REF (in), 5 OUT1 (out), 6 OUT2 (out), 7 OUT3 (out), 8 OUT4 (out), 9 OUT5 (out), 10 OUT6 (out), 11 OUT7 (out), 12 OUT8 (out), 13 GND (power), 14 VDD (power), 15 DOUT (out), 16 ~{CS} (in)

## MAX5441ACUA+
designator IC?
+3V/+5V, Serial-Input, Voltage-Output, 16-Bit ±2LSB DAC
pins: 1 REF (in), 2 ~{CS} (in), 3 SCLK (in), 4 DIN (in), 5 ~{CLR} (in), 6 OUT (out), 7 VDD (power), 8 GND (power)

## MAX5442ACUB+
designator IC?
+5V, Serial-Input, Voltage-Output, 16-Bit ±2LSB DAC
pins: 1 REF (in), 2 ~{CS} (in), 3 SCLK (in), 4 DIN (in), 5 ~{CLR} (in), 6 OUT (out), 7 INV (out), 8 RFB (in), 9 VDD (power), 10 GND (power)

## MAX5443ACUA+
designator IC?
+3V, Serial-Input, Voltage-Output, 16-Bit ±2LSB DAC
pins: 1 REF (in), 2 ~{CS} (in), 3 SCLK (in), 4 DIN (in), 5 ~{CLR} (in), 6 OUT (out), 7 VDD (power), 8 GND (power)

## MAX5483EUD
designator IC?
10-Bit, Nonvolatile Linear-Taper Digital Potentiometer
pins: 1 VDD (power), 2 GND (power), 3 ~{CS} (in), 4 SCLK(~{INC}) (in), 5 DIN(U/~{D}) (in), 6 SPI/~{UD} (in), 7 N.C., 8 N.C., 9 N.C., 10 L, 11 W, 12 D.N.C., 13 N.C., 14 VSS (power)
text: 10k

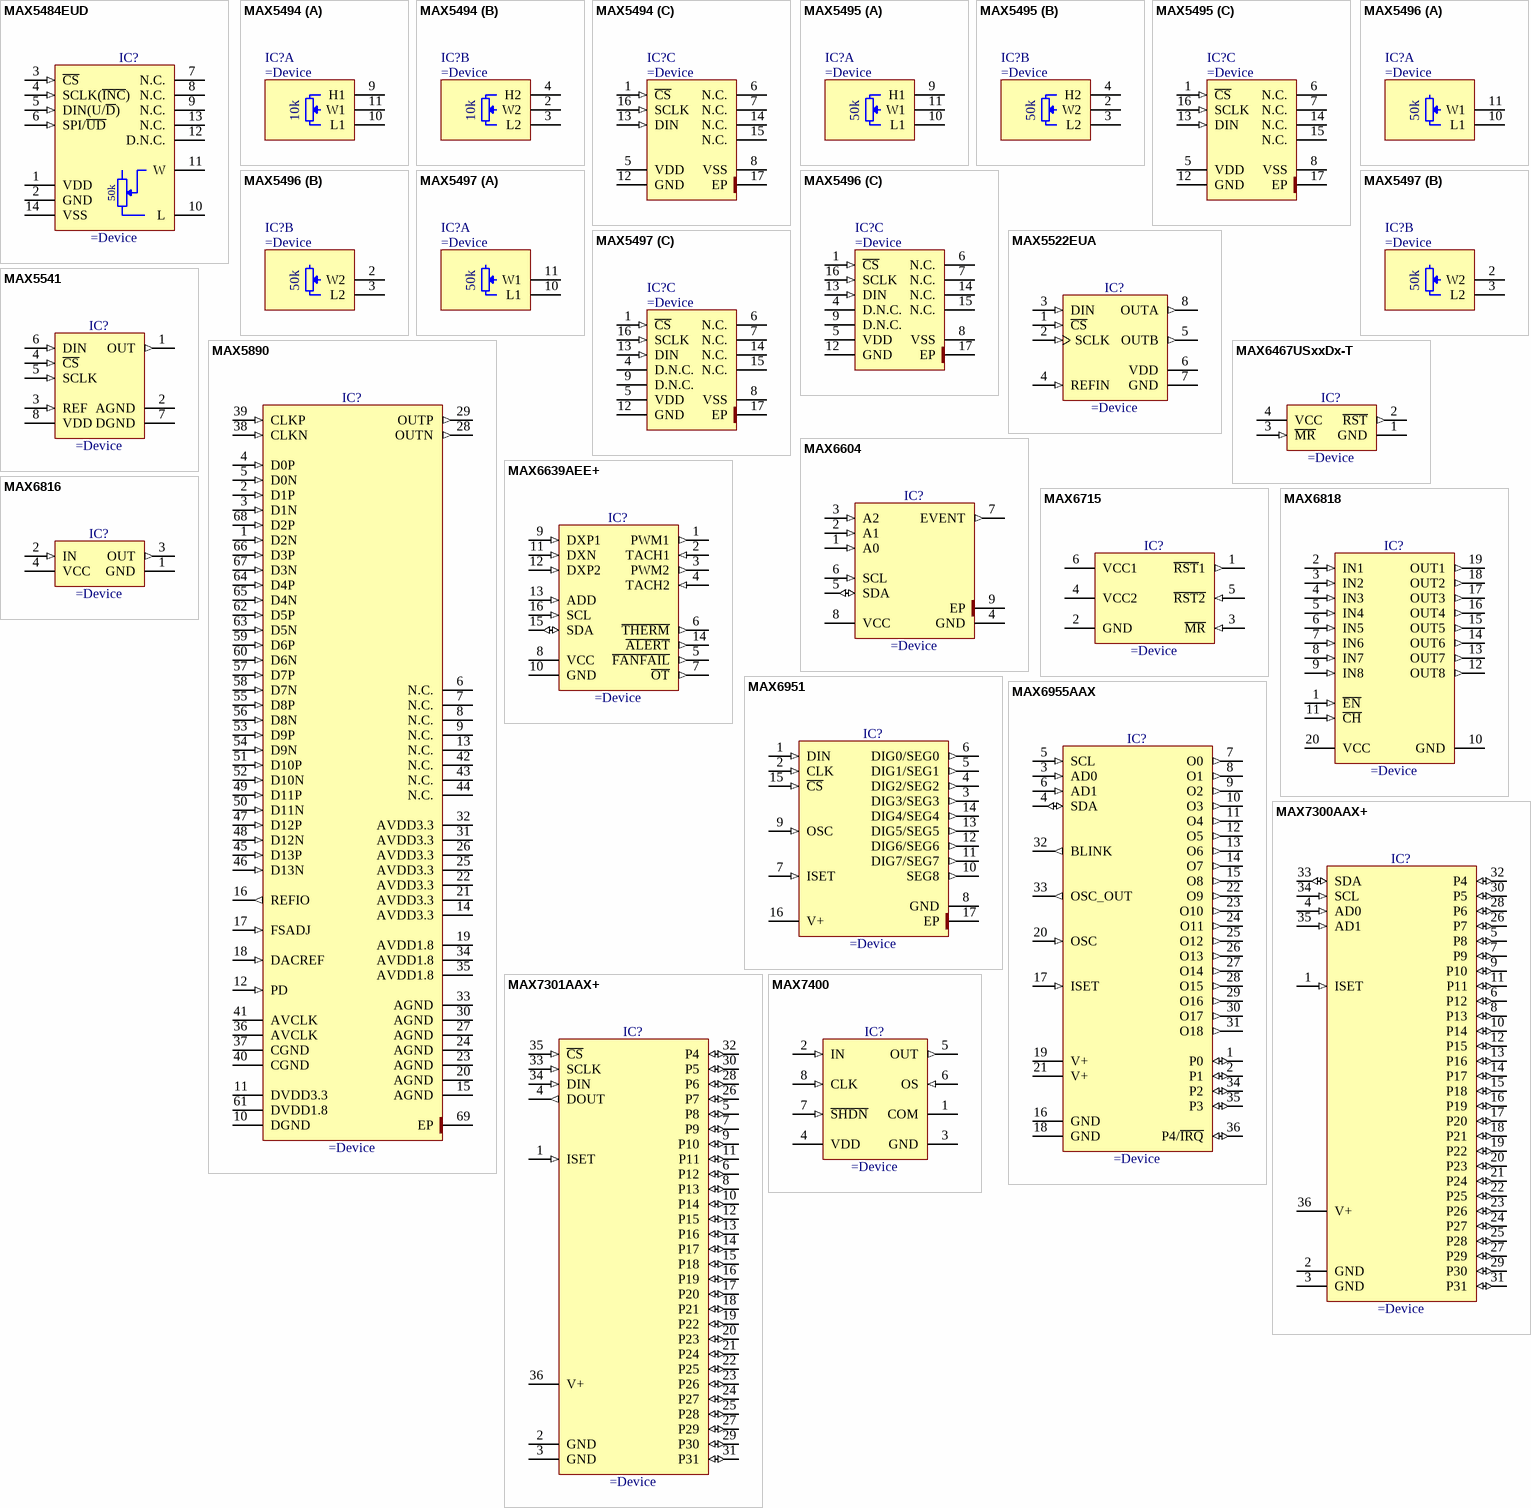
[diagram p48: symbols MAX5484EUD to MAX7400]

## MAX5484EUD
designator IC?
10-Bit, Nonvolatile, Linear-Taper Digital Potentiometers
footprint TSOP65P640-24AN (TSOP, 24-Leads, Body 7.8x4.4mm, Pitch 0.65mm, IPC Medium Density)
pins: 1 VDD (power), 2 GND (power), 3 ~{CS} (in), 4 SCLK(~{INC}) (in), 5 DIN(U/~{D}) (in), 6 SPI/~{UD} (in), 7 N.C., 8 N.C., 9 N.C., 10 L, 11 W, 12 D.N.C., 13 N.C., 14 VSS (power)
text: 50k

## MAX5494
designator IC?
10-Bit, Dual, Nonvolatile, 10k Linear-Taper Digital Potentiometer
part A pins: 9 H1, 10 L1, 11 W1
part B pins: 2 W2, 3 L2, 4 H2
part C pins: 1 ~{CS} (in), 5 VDD (power), 6 N.C., 7 N.C., 8 VSS (power), 12 GND (power), 13 DIN (in), 14 N.C., 15 N.C., 16 SCLK (in), 17 EP (power)
part A text: 10k
part B text: 10k

## MAX5495
designator IC?
10-Bit, Dual, Nonvolatile, 50k Linear-Taper Digital Potentiometer
part A pins: 9 H1, 10 L1, 11 W1
part B pins: 2 W2, 3 L2, 4 H2
part C pins: 1 ~{CS} (in), 5 VDD (power), 6 N.C., 7 N.C., 8 VSS (power), 12 GND (power), 13 DIN (in), 14 N.C., 15 N.C., 16 SCLK (in), 17 EP (power)
part A text: 50k
part B text: 50k

## MAX5496
designator IC?
10-Bit, Dual, Nonvolatile, 10k Linear-Taper Digital Potentiometer (Two Variable Resistors)
part A pins: 10 L1, 11 W1
part B pins: 2 W2, 3 L2
part C pins: 1 ~{CS} (in), 4 D.N.C., 5 VDD (power), 6 N.C., 7 N.C., 8 VSS (power), 9 D.N.C., 12 GND (power), 13 DIN (in), 14 N.C., 15 N.C., 16 SCLK (in), 17 EP (power)
part A text: 50k
part B text: 50k

## MAX5497
designator IC?
10-Bit, Dual, Nonvolatile, 50k Linear-Taper Digital Potentiometer (Two Variable Resistors)
part A pins: 10 L1, 11 W1
part B pins: 2 W2, 3 L2
part C pins: 1 ~{CS} (in), 4 D.N.C., 5 VDD (power), 6 N.C., 7 N.C., 8 VSS (power), 9 D.N.C., 12 GND (power), 13 DIN (in), 14 N.C., 15 N.C., 16 SCLK (in), 17 EP (power)
part A text: 50k
part B text: 50k

## MAX5522EUA
designator IC?
10-Bit, Dual, Ultra-Low-Power, Voltage-Output DACs
pins: 1 ~{CS} (in), 2 SCLK (in), 3 DIN (in), 4 REFIN (in), 5 OUTB (out), 6 VDD (power), 7 GND (power), 8 OUTA (out)

## MAX5541
designator IC?
Low-Cost, +5V, Serial-Input, Voltage-Output, 16-Bit DAC
pins: 1 OUT (out), 2 AGND (power), 3 REF (in), 4 ~{CS} (in), 5 SCLK (in), 6 DIN (in), 7 DGND (power), 8 VDD (power)

## MAX5890
designator IC?
14-Bit, 600Msps, High-Dynamic-Performance DAC with LVDS Inputs
pins: 1 D2N (in), 2 D1P (in), 3 D1N (in), 4 D0P (in), 5 D0N (in), 6 N.C., 7 N.C., 8 N.C., 9 N.C., 10 DGND (power), 11 DVDD3.3 (power), 12 PD (in), 13 N.C., 14 AVDD3.3 (power), 15 AGND (power), 16 REFIO (out), 17 FSADJ (in), 18 DACREF (in), 19 AVDD1.8 (power), 20 AGND (power), 21 AVDD3.3 (power), 22 AVDD3.3 (power), 23 AGND (power), 24 AGND (power), 25 AVDD3.3 (power), 26 AVDD3.3 (power), 27 AGND (power), 28 OUTN (out), 29 OUTP (out), 30 AGND (power), 31 AVDD3.3 (power), 32 AVDD3.3 (power), 33 AGND (power), 34 AVDD1.8 (power), 35 AVDD1.8 (power), 36 AVCLK (power), 37 CGND (power), 38 CLKN (in), 39 CLKP (in), 40 CGND (power), 41 AVCLK (power), 42 N.C., 43 N.C., 44 N.C., 45 D13P (in), 46 D13N (in), 47 D12P (in), 48 D12N (in), 49 D11P (in), 50 D11N (in), 51 D10P (in), 52 D10N (in), 53 D9P (in), 54 D9N (in), 55 D8P (in), 56 D8N (in), 57 D7P (in), 58 D7N (in), 59 D6P (in), 60 D6N (in), 61 DVDD1.8 (power), 62 D5P (in), 63 D5N (in), 64 D4P (in), 65 D4N (in), 66 D3P (in), 67 D3N (in), 68 D2P (in), 69 EP (power)

## MAX6467USxxDx-T
designator IC?
Microprocessor Supervisory Reset Circuit with Edge-Triggered, One-Shot Manual Reset
pins: 1 GND (power), 2 ~{RST} (out), 3 ~{MR} (in), 4 VCC (power)

## MAX6604
designator IC?
Precision Temperature Monitor For DDR Memory Modules
pins: 1 A0 (in), 2 A1 (in), 3 A2 (in), 4 GND (power), 5 SDA (io), 6 SCL (in), 7 EVENT (out), 8 VCC (power), 9 EP (power)

## MAX6639AEE+
designator IC?
2-Channel Temperature Monitor with Dual, Automatic, PWM Fan-Speed Controller
pins: 1 PWM1 (out), 2 TACH1 (in), 3 PWM2 (out), 4 TACH2 (in), 5 ~{FANFAIL} (out), 6 ~{THERM} (out), 7 ~{OT} (out), 8 VCC (power), 9 DXP1 (in), 10 GND (power), 11 DXN (in), 12 DXP2 (in), 13 ADD (in), 14 ~{ALERT} (out), 15 SDA (io), 16 SCL (in)

## MAX6715
designator IC?
Dual Ultra-Low-Voltage SOT23 uP Supervisory Circuit
pins: 1 ~{RST}1 (out), 2 GND (power), 3 ~{MR} (in), 4 VCC2 (power), 5 ~{RST2} (in), 6 VCC1 (power)

## MAX6816
designator IC?
±15kV ESD-Protected, Single CMOS Switch Debouncers
pins: 1 GND (power), 2 IN (in), 3 OUT (out), 4 VCC (power)

## MAX6818
designator IC?
±15kV ESD-Protected, Octal, CMOS Switch Debouncers
pins: 1 ~{EN} (in), 2 IN1 (in), 3 IN2 (in), 4 IN3 (in), 5 IN4 (in), 6 IN5 (in), 7 IN6 (in), 8 IN7 (in), 9 IN8 (in), 10 GND (power), 11 ~{CH} (in), 12 OUT8 (out), 13 OUT7 (out), 14 OUT6 (out), 15 OUT5 (out), 16 OUT4 (out), 17 OUT3 (out), 18 OUT2 (out), 19 OUT1 (out), 20 VCC (power)

## MAX6951
designator IC?
Serially Interfaced, +2.7V to +5.5V, 8-Digit 7 segment LED Display Driver
pins: 1 DIN (in), 2 CLK (in), 3 DIG3/SEG3 (out), 4 DIG2/SEG2 (out), 5 DIG1/SEG1 (out), 6 DIG0/SEG0 (out), 7 ISET (in), 8 GND (power), 9 OSC (in), 10 SEG8 (out), 11 DIG7/SEG7 (out), 12 DIG6/SEG6 (out), 13 DIG5/SEG5 (out), 14 DIG4/SEG4 (out), 15 ~{CS} (in), 16 V+ (power), 17 EP (power)

## MAX6955AAX
designator IC?
2-Wire Interfaced, 2.7V to 5.5V LED Display Driver with I/O Expander and Key Scan
pins: 1 P0 (io), 2 P1 (io), 3 AD0 (in), 4 SDA (io), 5 SCL (in), 6 AD1 (in), 7 O0 (out), 8 O1 (out), 9 O2 (out), 10 O3 (out), 11 O4 (out), 12 O5 (out), 13 O6 (out), 14 O7 (out), 15 O8 (out), 16 GND (power), 17 ISET (in), 18 GND (power), 19 V+ (power), 20 OSC (in), 21 V+ (power), 22 O9 (out), 23 O10 (out), 24 O11 (out), 25 O12 (out), 26 O13 (out), 27 O14 (out), 28 O15 (out), 29 O16 (out), 30 O17 (out), 31 O18 (out), 32 BLINK (out), 33 OSC_OUT (out), 34 P2 (io), 35 P3 (io), 36 P4/~{IRQ} (io)

## MAX7300AAX+
designator IC?
2-Wire-Interfaced, 2.5V to 5.5V, 28-Port I/O Expander
pins: 1 ISET (in), 2 GND (power), 3 GND (power), 4 AD0 (in), 5 P8 (io), 6 P12 (io), 7 P9 (io), 8 P13 (io), 9 P10 (io), 10 P14 (io), 11 P11 (io), 12 P15 (io), 13 P16 (io), 14 P17 (io), 15 P18 (io), 16 P19 (io), 17 P20 (io), 18 P21 (io), 19 P22 (io), 20 P23 (io), 21 P24 (io), 22 P25 (io), 23 P26 (io), 24 P27 (io), 25 P28 (io), 26 P7 (io), 27 P29 (io), 28 P6 (io), 29 P30 (io), 30 P5 (io), 31 P31 (io), 32 P4 (io), 33 SDA (io), 34 SCL (in), 35 AD1 (in), 36 V+ (power)

## MAX7301AAX+
designator IC?
4-Wire-Interfaced, 2.5V to 5.5V, 28-Port I/O Expander
pins: 1 ISET (in), 2 GND (power), 3 GND (power), 4 DOUT (out), 5 P8 (io), 6 P12 (io), 7 P9 (io), 8 P13 (io), 9 P10 (io), 10 P14 (io), 11 P11 (io), 12 P15 (io), 13 P16 (io), 14 P17 (io), 15 P18 (io), 16 P19 (io), 17 P20 (io), 18 P21 (io), 19 P22 (io), 20 P23 (io), 21 P24 (io), 22 P25 (io), 23 P26 (io), 24 P27 (io), 25 P28 (io), 26 P7 (io), 27 P29 (io), 28 P6 (io), 29 P30 (io), 30 P5 (io), 31 P31 (io), 32 P4 (io), 33 SCLK (in), 34 DIN (in), 35 ~{CS} (in), 36 V+ (power)

## MAX7400
designator IC?
8th-Order, Lowpass, Elliptic, Switched-Capacitor Filter
pins: 1 COM "Voltage Reference", 2 IN (in) "Non-Inverting Input", 3 GND (power) "Ground", 4 VDD (power) "Ground", 5 OUT (out) "Chip Select Bar", 6 OS (in) "Inverting Input", 7 ~{SHDN} (in) "Serial Data Output", 8 CLK (in) "Serial Clock"

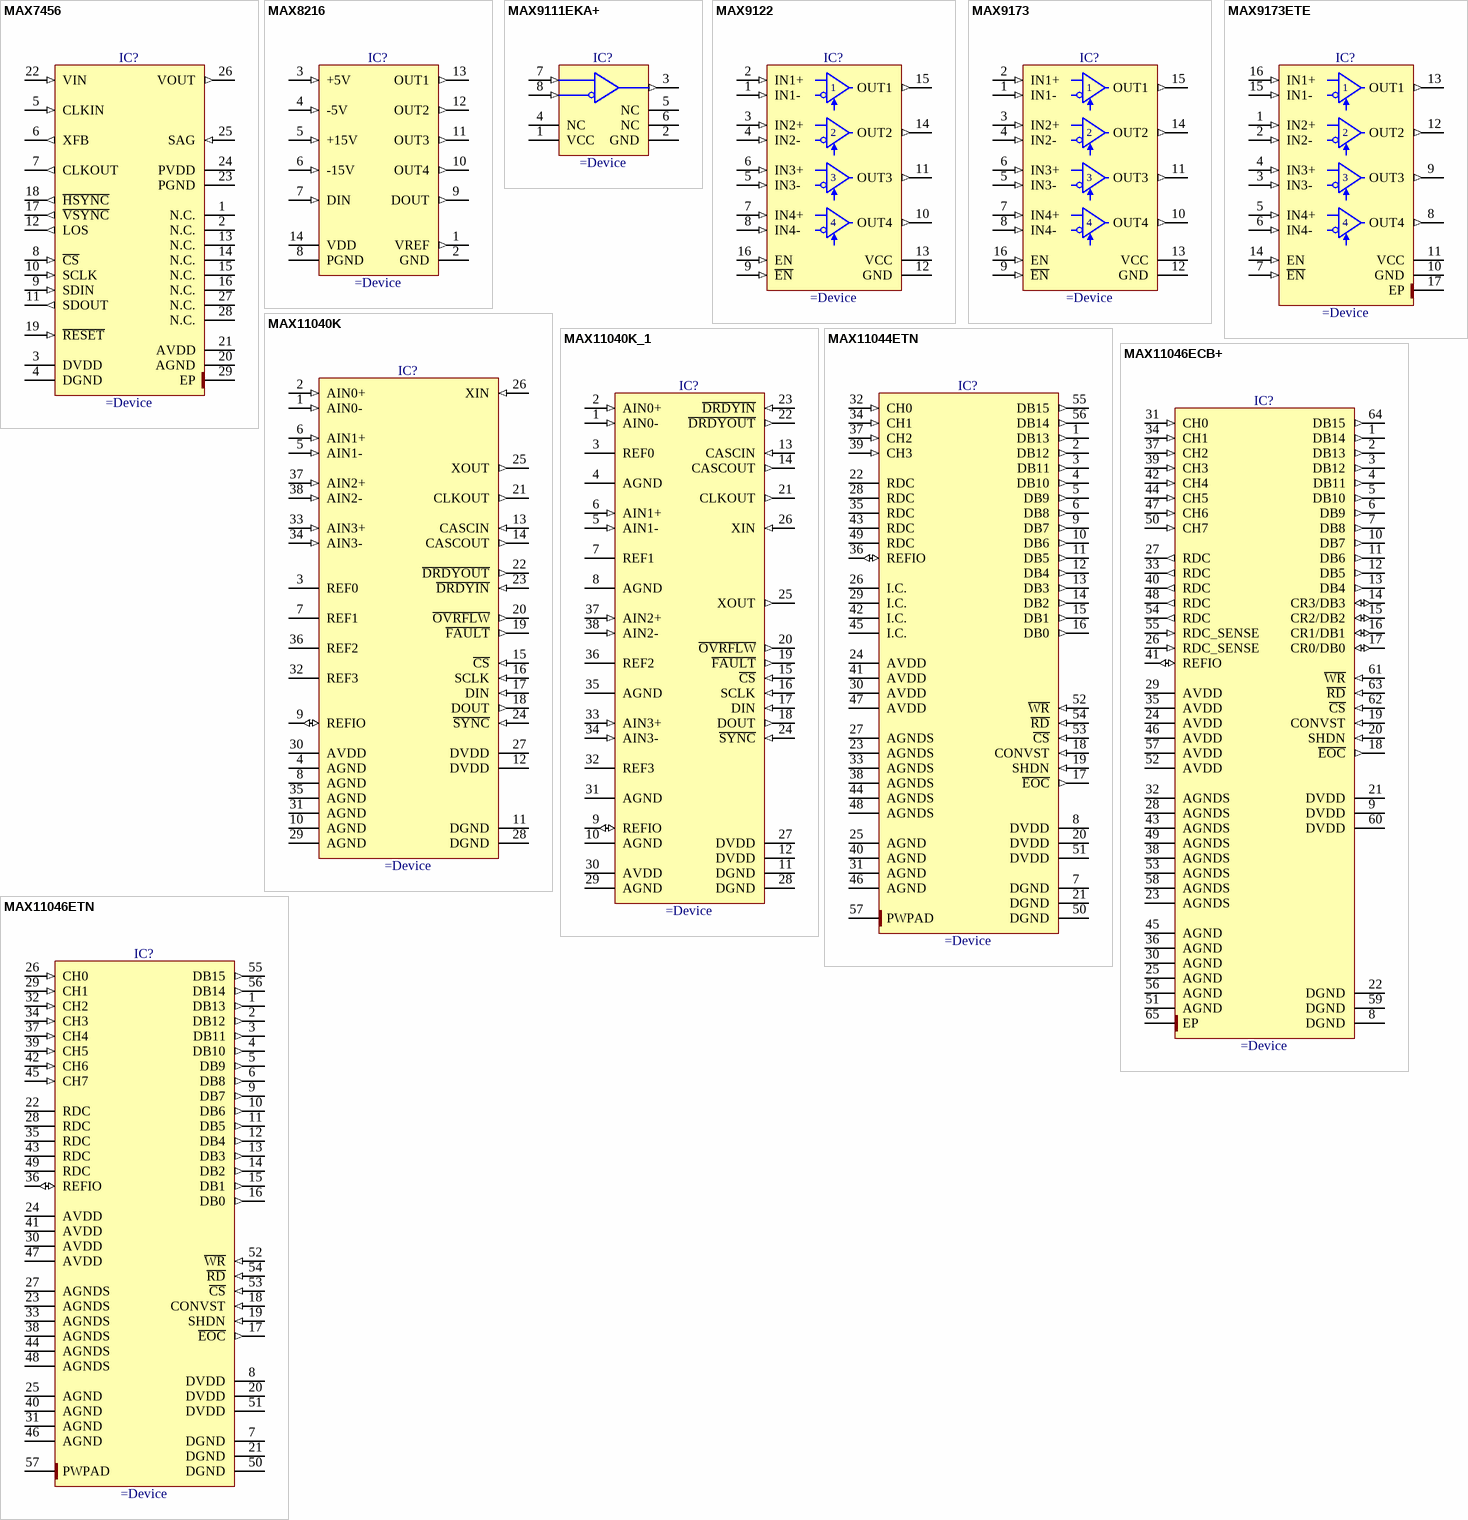
[diagram p49: symbols MAX7456 to MAX11046ETN]

## MAX7456
designator IC?
Single-Channel Monochrome On-Screen Display with Integrated EEPROM
pins: 1 N.C., 2 N.C., 3 DVDD (power), 4 DGND (power), 5 CLKIN (in), 6 XFB (out), 7 CLKOUT (out), 8 ~{CS} (in), 9 SDIN (in), 10 SCLK (in), 11 SDOUT (out), 12 LOS (out), 13 N.C., 14 N.C., 15 N.C., 16 N.C., 17 ~{VSYNC} (out), 18 ~{HSYNC} (out), 19 ~{RESET} (in), 20 AGND (power), 21 AVDD (power), 22 VIN (in), 23 PGND (power), 24 PVDD (power), 25 SAG (in), 26 VOUT (out), 27 N.C., 28 N.C., 29 EP (power)

## MAX8216
designator IC?
±5V, ±15V Dedicated Microprocessor Voltage Monitors
pins: 1 VREF (out), 2 GND (power), 3 +5V (in), 4 -5V (in), 5 +15V (in), 6 -15V (in), 7 DIN (in), 8 PGND (power), 9 DOUT (out), 10 OUT4 (out), 11 OUT3 (out), 12 OUT2 (out), 13 OUT1 (out), 14 VDD (power)

## MAX9111EKA+
designator IC?
Single LVDS Line Receiver with Ultra-Low Pulse Skew
pins: 1 VCC (power), 2 GND (power), 3 OUT (out), 4 NC, 5 NC, 6 NC, 7 IN+ (in), 8 IN- (in)

## MAX9122
designator IC?
Quad LVDS Line Receivers with Integrated Termination and Flow-Through Pinout
pins: 1 IN1- (in), 2 IN1+ (in), 3 IN2+ (in), 4 IN2- (in), 5 IN3- (in), 6 IN3+ (in), 7 IN4+ (in), 8 IN4- (in), 9 ~{EN} (in), 10 OUT4 (out), 11 OUT3 (out), 12 GND (power), 13 VCC (power), 14 OUT2 (out), 15 OUT1 (out), 16 EN (in)

## MAX9173
designator IC?
Quad LVDS Line Receiver with Flow-Through Pinout and "In-Path" Fail-Safe
pins: 1 IN1- (in), 2 IN1+ (in), 3 IN2+ (in), 4 IN2- (in), 5 IN3- (in), 6 IN3+ (in), 7 IN4+ (in), 8 IN4- (in), 9 ~{EN} (in), 10 OUT4 (out), 11 OUT3 (out), 12 GND (power), 13 VCC (power), 14 OUT2 (out), 15 OUT1 (out), 16 EN (in)

## MAX9173ETE
designator IC?
Quad LVDS Line Receiver with Flow-Through Pinout and "In-Path" Fail-Safe
pins: 1 IN2+ (in), 2 IN2- (in), 3 IN3- (in), 4 IN3+ (in), 5 IN4+ (in), 6 IN4- (in), 7 ~{EN} (in), 8 OUT4 (out), 9 OUT3 (out), 10 GND (power), 11 VCC (power), 12 OUT2 (out), 13 OUT1 (out), 14 EN (in), 15 IN1- (in), 16 IN1+ (in), 17 EP (power)

## MAX11040K
designator IC?
24-Bit, 4-Channel, Simultaneous-Sampling, Cascadable, Sigma-Delta ADC
pins: 1 AIN0- (in), 2 AIN0+ (in), 3 REF0, 4 AGND (power), 5 AIN1- (in), 6 AIN1+ (in), 7 REF1, 8 AGND (power), 9 REFIO (io), 10 AGND (power), 11 DGND (power), 12 DVDD (power), 13 CASCIN (in), 14 CASCOUT (out), 15 ~{CS} (in), 16 SCLK (in), 17 DIN (in), 18 DOUT (out), 19 ~{FAULT} (out), 20 ~{OVRFLW} (out), 21 CLKOUT (out), 22 ~{DRDYOUT} (out), 23 ~{DRDYIN} (in), 24 ~{SYNC} (in), 25 XOUT (out), 26 XIN (in), 27 DVDD (power), 28 DGND (power), 29 AGND (power), 30 AVDD (power), 31 AGND (power), 32 REF3, 33 AIN3+ (in), 34 AIN3- (in), 35 AGND (power), 36 REF2, 37 AIN2+ (in), 38 AIN2- (in)

## MAX11040K_1
designator IC?
24-Bit, 4-Channel, Simultaneous-Sampling, Cascadable, Sigma-Delta ADC
pins: 1 AIN0- (in), 2 AIN0+ (in), 3 REF0, 4 AGND (power), 5 AIN1- (in), 6 AIN1+ (in), 7 REF1, 8 AGND (power), 9 REFIO (io), 10 AGND (power), 11 DGND (power), 12 DVDD (power), 13 CASCIN (in), 14 CASCOUT (out), 15 ~{CS} (in), 16 SCLK (in), 17 DIN (in), 18 DOUT (out), 19 ~{FAULT} (out), 20 ~{OVRFLW} (out), 21 CLKOUT (out), 22 ~{DRDYOUT} (out), 23 ~{DRDYIN} (in), 24 ~{SYNC} (in), 25 XOUT (out), 26 XIN (in), 27 DVDD (power), 28 DGND (power), 29 AGND (power), 30 AVDD (power), 31 AGND (power), 32 REF3, 33 AIN3+ (in), 34 AIN3- (in), 35 AGND (power), 36 REF2, 37 AIN2+ (in), 38 AIN2- (in)

## MAX11044ETN
designator IC?
4-Channel, 16-Bit, Simultaneous-Sampling ADC
pins: 1 DB13 (out), 2 DB12 (out), 3 DB11 (out), 4 DB10 (out), 5 DB9 (out), 6 DB8 (out), 7 DGND (power), 8 DVDD (power), 9 DB7 (out), 10 DB6 (out), 11 DB5 (out), 12 DB4 (out), 13 DB3 (out), 14 DB2 (out), 15 DB1 (out), 16 DB0 (out), 17 ~{EOC} (out), 18 CONVST (in), 19 SHDN (in), 20 DVDD (power), 21 DGND (power), 22 RDC, 23 AGNDS (power), 24 AVDD (power), 25 AGND (power), 26 I.C., 27 AGNDS (power), 28 RDC, 29 I.C., 30 AVDD (power), 31 AGND (power), 32 CH0 (in), 33 AGNDS (power), 34 CH1 (in), 35 RDC, 36 REFIO (io), 37 CH2 (in), 38 AGNDS (power), 39 CH3 (in), 40 AGND (power), 41 AVDD (power), 42 I.C., 43 RDC, 44 AGNDS (power), 45 I.C., 46 AGND (power), 47 AVDD (power), 48 AGNDS (power), 49 RDC, 50 DGND (power), 51 DVDD (power), 52 ~{WR} (in), 53 ~{CS} (in), 54 ~{RD} (in), 55 DB15 (out), 56 DB14 (out), 57 PWPAD (power)

## MAX11046ECB+
designator IC?
8-Channel, 16-Bit, Simultaneous-Sampling ADC
pins: 1 DB14 (out), 2 DB13 (out), 3 DB12 (out), 4 DB11 (out), 5 DB10 (out), 6 DB9 (out), 7 DB8 (out), 8 DGND (power), 9 DVDD (power), 10 DB7 (out), 11 DB6 (out), 12 DB5 (out), 13 DB4 (out), 14 CR3/DB3 (io), 15 CR2/DB2 (io), 16 CR1/DB1 (io), 17 CR0/DB0 (io), 18 ~{EOC} (out), 19 CONVST (in), 20 SHDN (in), 21 DVDD (power), 22 DGND (power), 23 AGNDS (power), 24 AVDD (power), 25 AGND (power), 26 RDC_SENSE (in), 27 RDC (out), 28 AGNDS (power), 29 AVDD (power), 30 AGND (power), 31 CH0 (in), 32 AGNDS (power), 33 RDC (out), 34 CH1 (in), 35 AVDD (power), 36 AGND (power), 37 CH2 (in), 38 AGNDS (power), 39 CH3 (in), 40 RDC (out), 41 REFIO (io), 42 CH4 (in), 43 AGNDS (power), 44 CH5 (in), 45 AGND (power), 46 AVDD (power), 47 CH6 (in), 48 RDC (out), 49 AGNDS (power), 50 CH7 (in), 51 AGND (power), 52 AVDD (power), 53 AGNDS (power), 54 RDC (out), 55 RDC_SENSE (in), 56 AGND (power), 57 AVDD (power), 58 AGNDS (power), 59 DGND (power), 60 DVDD (power), 61 ~{WR} (in), 62 ~{CS} (in), 63 ~{RD} (in), 64 DB15 (out), 65 EP (power)

## MAX11046ETN
designator IC?
8-Channel, 16-Bit, Simultaneous-Sampling ADC
pins: 1 DB13 (out), 2 DB12 (out), 3 DB11 (out), 4 DB10 (out), 5 DB9 (out), 6 DB8 (out), 7 DGND (power), 8 DVDD (power), 9 DB7 (out), 10 DB6 (out), 11 DB5 (out), 12 DB4 (out), 13 DB3 (out), 14 DB2 (out), 15 DB1 (out), 16 DB0 (out), 17 ~{EOC} (out), 18 CONVST (in), 19 SHDN (in), 20 DVDD (power), 21 DGND (power), 22 RDC, 23 AGNDS (power), 24 AVDD (power), 25 AGND (power), 26 CH0 (in), 27 AGNDS (power), 28 RDC, 29 CH1 (in), 30 AVDD (power), 31 AGND (power), 32 CH2 (in), 33 AGNDS (power), 34 CH3 (in), 35 RDC, 36 REFIO (io), 37 CH4 (in), 38 AGNDS (power), 39 CH5 (in), 40 AGND (power), 41 AVDD (power), 42 CH6 (in), 43 RDC, 44 AGNDS (power), 45 CH7 (in), 46 AGND (power), 47 AVDD (power), 48 AGNDS (power), 49 RDC, 50 DGND (power), 51 DVDD (power), 52 ~{WR} (in), 53 ~{CS} (in), 54 ~{RD} (in), 55 DB15 (out), 56 DB14 (out), 57 PWPAD (power)

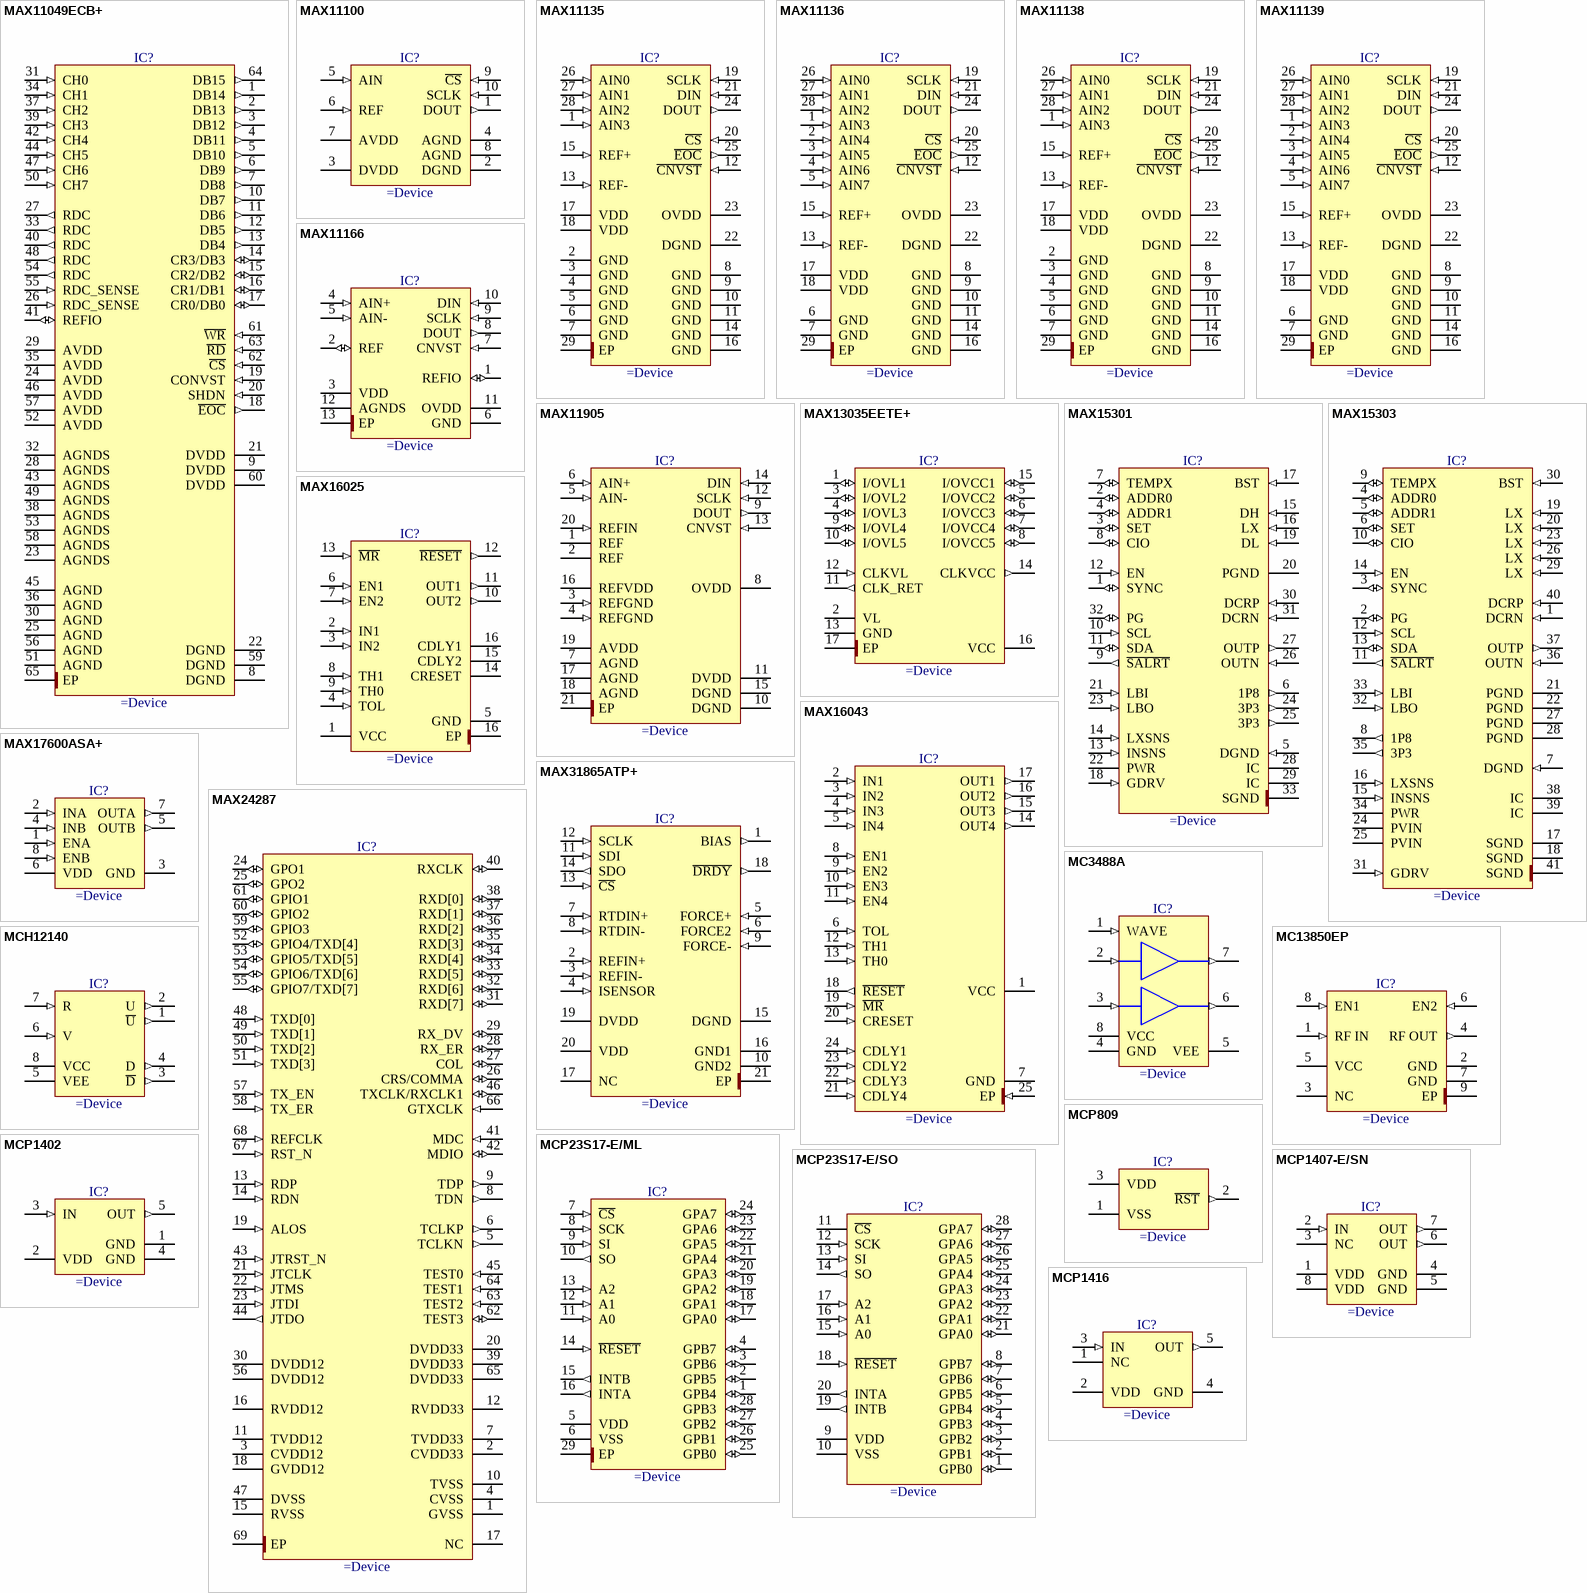
[diagram p50: symbols MAX11049ECB+ to MCP1416]

## MAX11049ECB+
designator IC?
8-Channel, 16-Bit, Simultaneous-Sampling ADC
pins: 1 DB14 (out), 2 DB13 (out), 3 DB12 (out), 4 DB11 (out), 5 DB10 (out), 6 DB9 (out), 7 DB8 (out), 8 DGND (power), 9 DVDD (power), 10 DB7 (out), 11 DB6 (out), 12 DB5 (out), 13 DB4 (out), 14 CR3/DB3 (io), 15 CR2/DB2 (io), 16 CR1/DB1 (io), 17 CR0/DB0 (io), 18 ~{EOC} (out), 19 CONVST (in), 20 SHDN (in), 21 DVDD (power), 22 DGND (power), 23 AGNDS (power), 24 AVDD (power), 25 AGND (power), 26 RDC_SENSE (in), 27 RDC (out), 28 AGNDS (power), 29 AVDD (power), 30 AGND (power), 31 CH0 (in), 32 AGNDS (power), 33 RDC (out), 34 CH1 (in), 35 AVDD (power), 36 AGND (power), 37 CH2 (in), 38 AGNDS (power), 39 CH3 (in), 40 RDC (out), 41 REFIO (io), 42 CH4 (in), 43 AGNDS (power), 44 CH5 (in), 45 AGND (power), 46 AVDD (power), 47 CH6 (in), 48 RDC (out), 49 AGNDS (power), 50 CH7 (in), 51 AGND (power), 52 AVDD (power), 53 AGNDS (power), 54 RDC (out), 55 RDC_SENSE (in), 56 AGND (power), 57 AVDD (power), 58 AGNDS (power), 59 DGND (power), 60 DVDD (power), 61 ~{WR} (in), 62 ~{CS} (in), 63 ~{RD} (in), 64 DB15 (out), 65 EP (power)

## MAX11100
designator IC?
16-Bit, +5V, 200ksps ADC with 10uA Shutdown
pins: 1 DOUT (out) "Serial Data Output", 2 DGND (power) "Digital Ground", 3 DVDD (power) "Digital Supply Voltage.", 4 AGND (power) "Analog Ground", 5 AIN (in) "Analog Input", 6 REF (in) "External Reference Voltage Input", 7 AVDD (power) "Analog Ground.", 8 AGND (power) "Analog Ground", 9 ~{CS} (in) "Active-Low Chip-Select Input", 10 SCLK (in) "Serial Clock Input"

## MAX11135
designator IC?
500ksps, Low-Power, Serial 12-Bit, 4-Channel ADC
pins: 1 AIN3 (in), 2 GND (power), 3 GND (power), 4 GND (power), 5 GND (power), 6 GND (power), 7 GND (power), 8 GND (power), 9 GND (power), 10 GND (power), 11 GND (power), 12 ~{CNVST} (in), 13 REF- (in), 14 GND (power), 15 REF+ (in), 16 GND (power), 17 VDD (power), 18 VDD (power), 19 SCLK (in), 20 ~{CS} (in), 21 DIN (in), 22 DGND (power), 23 OVDD (power), 24 DOUT (out), 25 ~{EOC} (out), 26 AIN0 (in), 27 AIN1 (in), 28 AIN2 (in), 29 EP (power)

## MAX11136
designator IC?
500ksps, Low-Power, Serial 12-Bit, 8-Channel ADC
pins: 1 AIN3 (in), 2 AIN4 (in), 3 AIN5 (in), 4 AIN6 (in), 5 AIN7 (in), 6 GND (power), 7 GND (power), 8 GND (power), 9 GND (power), 10 GND (power), 11 GND (power), 12 ~{CNVST} (in), 13 REF- (in), 14 GND (power), 15 REF+ (in), 16 GND (power), 17 VDD (power), 18 VDD (power), 19 SCLK (in), 20 ~{CS} (in), 21 DIN (in), 22 DGND (power), 23 OVDD (power), 24 DOUT (out), 25 ~{EOC} (out), 26 AIN0 (in), 27 AIN1 (in), 28 AIN2 (in), 29 EP (power)

## MAX11138
designator IC?
500ksps, Low-Power, Serial 10-Bit, 4-Channel ADC
pins: 1 AIN3 (in), 2 GND (power), 3 GND (power), 4 GND (power), 5 GND (power), 6 GND (power), 7 GND (power), 8 GND (power), 9 GND (power), 10 GND (power), 11 GND (power), 12 ~{CNVST} (in), 13 REF- (in), 14 GND (power), 15 REF+ (in), 16 GND (power), 17 VDD (power), 18 VDD (power), 19 SCLK (in), 20 ~{CS} (in), 21 DIN (in), 22 DGND (power), 23 OVDD (power), 24 DOUT (out), 25 ~{EOC} (out), 26 AIN0 (in), 27 AIN1 (in), 28 AIN2 (in), 29 EP (power)

## MAX11139
designator IC?
500ksps, Low-Power, Serial 10-Bit, 8-Channel ADC
pins: 1 AIN3 (in), 2 AIN4 (in), 3 AIN5 (in), 4 AIN6 (in), 5 AIN7 (in), 6 GND (power), 7 GND (power), 8 GND (power), 9 GND (power), 10 GND (power), 11 GND (power), 12 ~{CNVST} (in), 13 REF- (in), 14 GND (power), 15 REF+ (in), 16 GND (power), 17 VDD (power), 18 VDD (power), 19 SCLK (in), 20 ~{CS} (in), 21 DIN (in), 22 DGND (power), 23 OVDD (power), 24 DOUT (out), 25 ~{EOC} (out), 26 AIN0 (in), 27 AIN1 (in), 28 AIN2 (in), 29 EP (power)

## MAX11166
designator IC?
16-Bit, 500ksps/250ksps, ±5V SAR ADCs with Internal Reference
pins: 1 REFIO (io), 2 REF (io), 3 VDD (power), 4 AIN+ (in), 5 AIN- (in), 6 GND (power), 7 CNVST (in), 8 DOUT (out), 9 SCLK (in), 10 DIN (in), 11 OVDD (power), 12 AGNDS (power), 13 EP (power)

## MAX11905
designator IC?
20-Bit, 1.6Msps, Low-Power, Fully Differential SAR ADC
pins: 1 REF, 2 REF, 3 REFGND (in), 4 REFGND (in), 5 AIN- (in), 6 AIN+ (in), 7 AGND (power), 8 OVDD (power), 9 DOUT (out), 10 DGND (power), 11 DVDD (power), 12 SCLK (in), 13 CNVST (in), 14 DIN (in), 15 DGND (power), 16 REFVDD, 17 AGND (power), 18 AGND (power), 19 AVDD (power), 20 REFIN (in), 21 EP (power)

## MAX13035EETE+
designator IC?
6-Channel High-Speed Logic-Level Translator
pins: 1 I/OVL1 (io), 2 VL (power), 3 I/OVL2 (io), 4 I/OVL3 (io), 5 I/OVCC2 (io), 6 I/OVCC3 (io), 7 I/OVCC4 (io), 8 I/OVCC5 (io), 9 I/OVL4 (io), 10 I/OVL5 (io), 11 CLK_RET (out), 12 CLKVL (in), 13 GND (power), 14 CLKVCC (out), 15 I/OVCC1 (io), 16 VCC (power), 17 EP (power)

## MAX15301
designator IC?
InTune Automatically Compensated Digital PoL Controller with Driver and PMBus Telemetry
pins: 1 SYNC (io), 2 ADDR0 (io), 3 SET (io), 4 ADDR1 (io), 5 DGND (in), 6 1P8 (out), 7 TEMPX (io), 8 CIO (io), 9 ~{SALRT} (out), 10 SCL (in), 11 SDA (io), 12 EN (in), 13 INSNS (in), 14 LXSNS (in), 15 DH (in), 16 LX (in), 17 BST (in), 18 GDRV (in), 19 DL (in), 20 PGND (power), 21 LBI (in), 22 PWR (power), 23 LBO (in), 24 3P3 (out), 25 3P3 (out), 26 OUTN (in), 27 OUTP (out), 28 IC (power), 29 IC (power), 30 DCRP (in), 31 DCRN (in), 32 PG (io), 33 SGND (power)

## MAX15303
designator IC?
6A Digital PoL DC-DC Converter with InTune Automatic Compensation
pins: 1 DCRN (in), 2 PG (io), 3 SYNC (io), 4 ADDR0 (io), 5 ADDR1 (io), 6 SET (io), 7 DGND (in), 8 1P8 (out), 9 TEMPX (io), 10 CIO (io), 11 ~{SALRT} (out), 12 SCL (in), 13 SDA (io), 14 EN (in), 15 INSNS (in), 16 LXSNS (in), 17 SGND (power), 18 SGND (power), 19 LX (in), 20 LX (in), 21 PGND (power), 22 PGND (power), 23 LX (in), 24 PVIN (power), 25 PVIN (power), 26 LX (in), 27 PGND (power), 28 PGND (power), 29 LX (in), 30 BST (in), 31 GDRV (in), 32 LBO (in), 33 LBI (in), 34 PWR (power), 35 3P3 (out), 36 OUTN (in), 37 OUTP (out), 38 IC (power), 39 IC (power), 40 DCRP (in), 41 SGND (power)

## MAX16025
designator IC?
Dual-Voltage, Capacitor-Adjustable, Sequencing/Supervisory Circuit
pins: 1 VCC (power), 2 IN1 (in), 3 IN2 (in), 4 TOL (in), 5 GND (power), 6 EN1 (in), 7 EN2 (in), 8 TH1 (in), 9 TH0 (in), 10 OUT2 (out), 11 OUT1 (out), 12 ~{RESET} (out), 13 ~{MR} (in), 14 CRESET, 15 CDLY2, 16 EP (power), 16 CDLY1

## MAX16043
designator IC?
Quad-Voltage, Capacitor-Adjustable, Sequencing/Supervisory Circuits
pins: 1 VCC (power), 2 IN1 (in), 3 IN2 (in), 4 IN3 (in), 5 IN4 (in), 6 TOL (in), 7 GND (power), 8 EN1 (in), 9 EN2 (in), 10 EN3 (in), 11 EN4 (in), 12 TH1 (in), 13 TH0 (in), 14 OUT4 (out), 15 OUT3 (out), 16 OUT2 (out), 17 OUT1 (out), 18 ~{RESET} (out), 19 ~{MR} (in), 20 CRESET (in), 21 CDLY4 (in), 22 CDLY3 (in), 23 CDLY2 (in), 24 CDLY1 (in), 25 EP (in)

## MAX17600ASA+
designator IC?
4A Sink/Source Current, 12ns, Dual MOSFET Driver
pins: 1 ENA (in), 2 INA (in), 3 GND (power), 4 INB (in), 5 OUTB (out), 6 VDD (power), 7 OUTA (out), 8 ENB (in)

## MAX24287
designator IC?
1Gbps Parallel-to-Serial MII Converter
pins: 1 GVSS (power), 2 CVDD33 (power), 3 CVDD12 (power), 4 CVSS (power), 5 TCLKN (out), 6 TCLKP (out), 7 TVDD33 (power), 8 TDN (out), 9 TDP (out), 10 TVSS (power), 11 TVDD12 (power), 12 RVDD33 (power), 13 RDP (in), 14 RDN (in), 15 RVSS (power), 16 RVDD12 (power), 17 NC, 18 GVDD12 (power), 19 ALOS (in), 20 DVDD33 (power), 21 JTCLK (in), 22 JTMS (in), 23 JTDI (in), 24 GPO1 (io), 25 GPO2 (io), 26 CRS/COMMA (io), 27 COL (io), 28 RX_ER (io), 29 RX_DV (io), 30 DVDD12 (power), 31 RXD[7] (io), 32 RXD[6] (io), 33 RXD[5] (io), 34 RXD[4] (io), 35 RXD[3] (io), 36 RXD[2] (io), 37 RXD[1] (io), 38 RXD[0] (io), 39 DVDD33 (power), 40 RXCLK (io), 41 MDC (in), 42 MDIO (io), 43 JTRST_N (in), 44 JTDO (out), 45 TEST0 (in), 46 TXCLK/RXCLK1 (io), 47 DVSS (power), 48 TXD[0] (in), 49 TXD[1] (in), 50 TXD[2] (in), 51 TXD[3] (in), 52 GPIO4/TXD[4] (io), 53 GPIO5/TXD[5] (io), 54 GPIO6/TXD[6] (io), 55 GPIO7/TXD[7] (io), 56 DVDD12 (power), 57 TX_EN (in), 58 TX_ER (in), 59 GPIO3 (io), 60 GPIO2 (io), 61 GPIO1 (io), 62 TEST3 (io), 63 TEST2 (in), 64 TEST1 (in), 65 DVDD33 (power), 66 GTXCLK (in), 67 RST_N (in), 68 REFCLK (in), 69 EP (power)

## MAX31865ATP+
designator IC?
RTD-to-Digital Converter
pins: 1 BIAS (out), 2 REFIN+ (in), 3 REFIN- (in), 4 ISENSOR (in), 5 FORCE+ (in), 6 FORCE2 (in), 7 RTDIN+ (in), 8 RTDIN- (in), 9 FORCE- (in), 10 GND2 (power), 11 SDI (in), 12 SCLK (in), 13 ~{CS} (in), 14 SDO (out), 15 DGND (power), 16 GND1 (power), 17 NC, 18 ~{DRDY} (out), 19 DVDD (power), 20 VDD (power), 21 EP (power)

## MC3488A
designator IC?
Dual EIA-423/EIA-232D Line Driver
pins: 1 WAVE (in), 2 INA (in), 3 INB (in), 4 GND (power), 5 VEE (power), 6 OUTB (out), 7 OUTA (out), 8 VCC (power)

## MC13850EP
designator IC?
Low Noise Amplifier with Bypass Switch
pins: 1 RF IN (in), 2 GND (power), 3 NC, 4 RF OUT (out), 5 VCC (power), 6 EN2 (in), 7 GND (power), 8 EN1 (in), 9 EP (power)

## MCH12140
designator IC?
Phase-Frequency Detector
pins: 1 ~{U} (out), 2 U (out), 3 ~{D} (out), 4 D (out), 5 VEE (power), 6 V (in), 7 R (in), 8 VCC (power)

## MCP23S17-E/ML
designator IC?
16-bit I/O Port Expander With Serial Interface
pins: 1 GPB4 (io), 2 GPB5 (io), 3 GPB6 (io), 4 GPB7 (io), 5 VDD (power), 6 VSS (power), 7 ~{CS} (in), 8 SCK (in), 9 SI (in), 10 SO (out), 11 A0 (in), 12 A1 (in), 13 A2 (in), 14 ~{RESET} (in), 15 INTB (out), 16 INTA (out), 17 GPA0 (io), 18 GPA1 (io), 19 GPA2 (io), 20 GPA3 (io), 21 GPA4 (io), 22 GPA5 (io), 23 GPA6 (io), 24 GPA7 (io), 25 GPB0 (io), 26 GPB1 (io), 27 GPB2 (io), 28 GPB3 (io), 29 EP (power)

## MCP23S17-E/SO
designator IC?
16-Bit I/O Expander with Serial Interface
pins: 1 GPB0 (io), 2 GPB1 (io), 3 GPB2 (io), 4 GPB3 (io), 5 GPB4 (io), 6 GPB5 (io), 7 GPB6 (io), 8 GPB7 (io), 9 VDD (power), 10 VSS (power), 11 ~{CS}, 12 SCK (in), 13 SI (in), 14 SO (out), 15 A0 (in), 16 A1 (in), 17 A2 (in), 18 ~{RESET} (in), 19 INTB (out), 20 INTA (out), 21 GPA0 (io), 22 GPA1 (io), 23 GPA2 (io), 24 GPA3 (io), 25 GPA4 (io), 26 GPA5 (io), 27 GPA6 (io), 28 GPA7 (io)

## MCP809
designator IC?
3.075V Microcontroller Supervisory Circuit With Push-Pull Output
pins: 1 VSS (power), 2 ~{RST} (out), 3 VDD (power)

## MCP1402
designator IC?
Tiny 500mA, High-Speed Power MOSFET Drivers
pins: 1 GND (power), 2 VDD (power), 3 IN (in), 4 GND (power), 5 OUT (out)

## MCP1407-E/SN
designator IC?
6A, High-Speed Power MOSFET Drivers
pins: 1 VDD (power), 2 IN (in), 3 NC, 4 GND (power), 5 GND (power), 6 OUT (out), 7 OUT (out), 8 VDD (power)

## MCP1416
designator IC?
Tiny 1.5A, High-Speed Power MOSFET Drivers
pins: 1 NC, 2 VDD (power), 3 IN (in), 4 GND (power), 5 OUT (out)

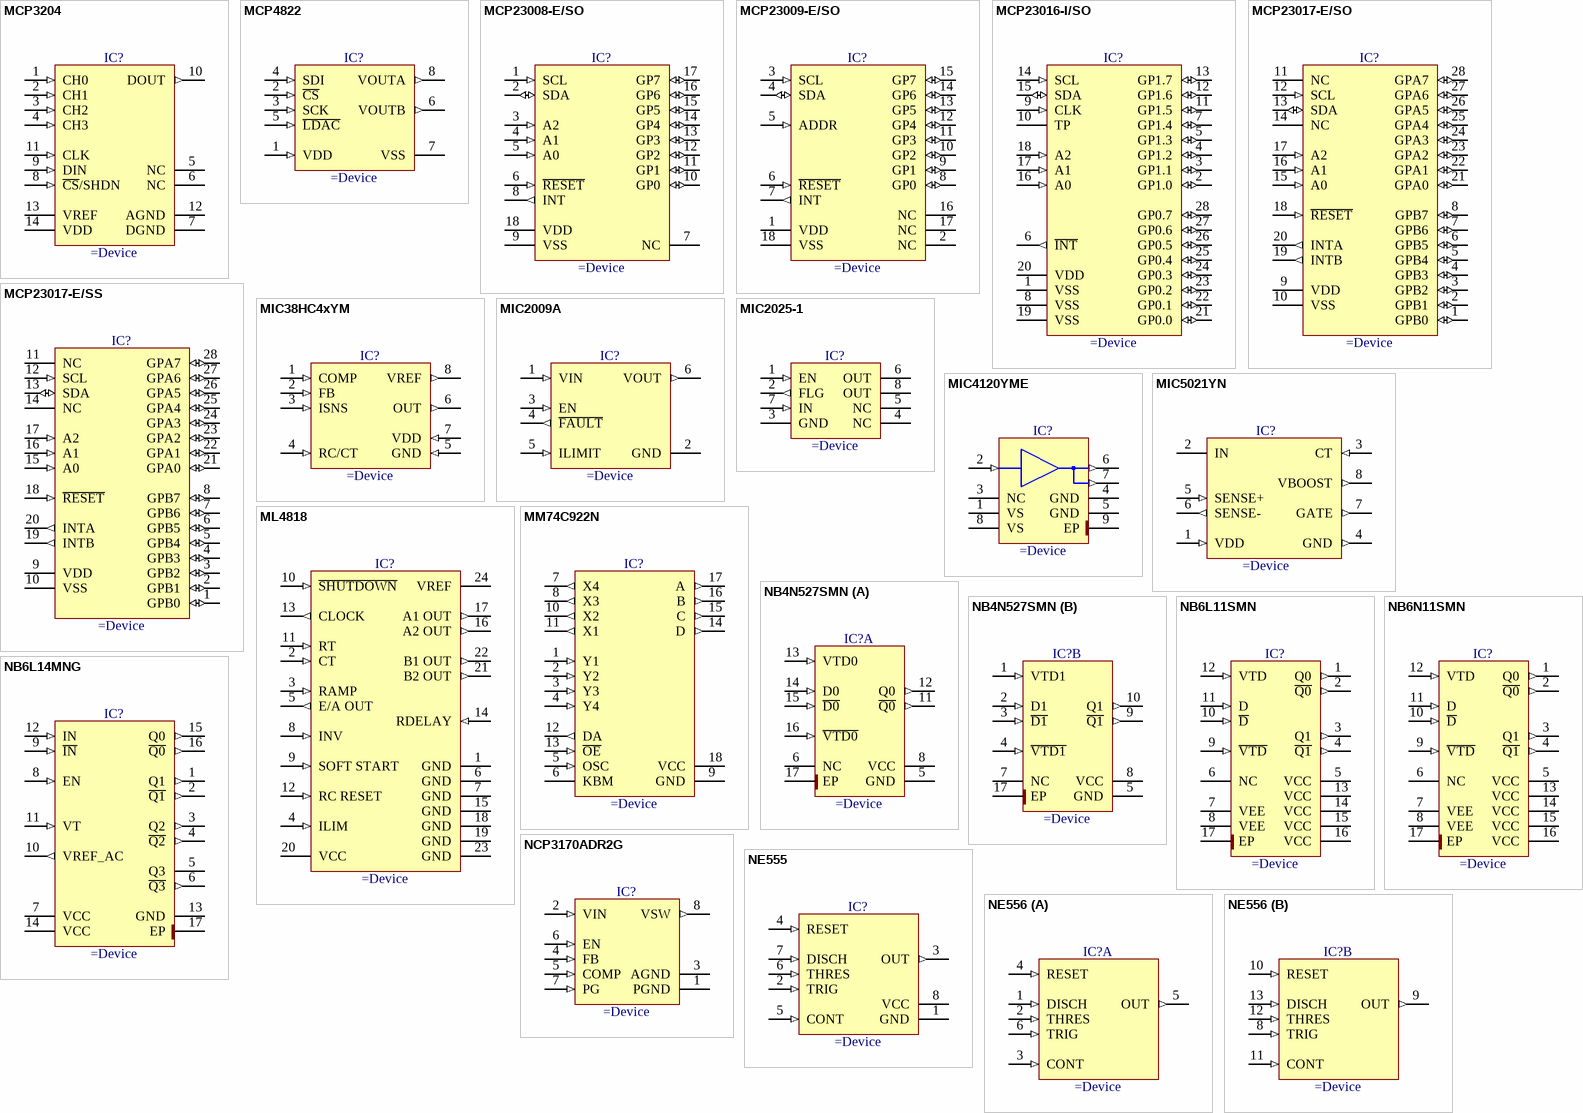
[diagram p51: symbols MCP3204 to NE556]

## MCP3204
designator IC?
2.7V 4-Channel 12-Bit A/D Converters With SPI Serial Interface
pins: 1 CH0 (in), 2 CH1 (in), 3 CH2 (in), 4 CH3 (in), 5 NC, 6 NC, 7 DGND (power), 8 ~{CS}/SHDN (in), 9 DIN (in), 10 DOUT (out), 11 CLK (in), 12 AGND (power), 13 VREF (power), 14 VDD (power)

## MCP4822
designator IC?
12-Bit Dual Voltage Output Digital-to-Analog Converter with Internal VREF and SPI Interface
pins: 1 VDD (in), 2 ~{CS} (in), 3 SCK (in), 4 SDI (in), 5 ~{LDAC} (in), 6 VOUTB (out), 7 VSS (power), 8 VOUTA (out)

## MCP23008-E/SO
designator IC?
8-Bit I/O Expander with Serial Interface
pins: 1 SCL (in), 2 SDA (io), 3 A2 (in), 4 A1 (in), 5 A0 (in), 6 ~{RESET} (in), 7 NC, 8 INT (out), 9 VSS (power), 10 GP0 (io), 11 GP1 (io), 12 GP2 (io), 13 GP3 (io), 14 GP4 (io), 15 GP5 (io), 16 GP6 (io), 17 GP7 (io), 18 VDD (power)

## MCP23009-E/SO
designator IC?
8-Bit I/O Expander with Open-Drain Outputs
pins: 1 VDD (power), 2 NC, 3 SCL (in), 4 SDA (io), 5 ADDR (in), 6 ~{RESET} (in), 7 INT (out), 8 GP0 (io), 9 GP1 (io), 10 GP2 (io), 11 GP3 (io), 12 GP4 (io), 13 GP5 (io), 14 GP6 (io), 15 GP7 (io), 16 NC, 17 NC, 18 VSS (power)

## MCP23016-I/SO
designator IC?
16-bit I/O I2C I/O Expander
pins: 1 VSS (power), 2 GP1.0 (io), 3 GP1.1 (io), 4 GP1.2 (io), 5 GP1.3 (io), 6 ~{INT} (out), 7 GP1.4 (io), 8 VSS (power), 9 CLK (in), 10 TP, 11 GP1.5 (io), 12 GP1.6 (io), 13 GP1.7 (io), 14 SCL (in), 15 SDA (io), 16 A0 (in), 17 A1 (in), 18 A2 (in), 19 VSS (power), 20 VDD (power), 21 GP0.0 (io), 22 GP0.1 (io), 23 GP0.2 (io), 24 GP0.3 (io), 25 GP0.4 (io), 26 GP0.5 (io), 27 GP0.6 (io), 28 GP0.7 (io)

## MCP23017-E/SO
designator IC?
16-Bit I/O Expander with Serial Interface
pins: 1 GPB0 (io), 2 GPB1 (io), 3 GPB2 (io), 4 GPB3 (io), 5 GPB4 (io), 6 GPB5 (io), 7 GPB6 (io), 8 GPB7 (io), 9 VDD (power), 10 VSS (power), 11 NC, 12 SCL (in), 13 SDA (io), 14 NC, 15 A0 (in), 16 A1 (in), 17 A2 (in), 18 ~{RESET} (in), 19 INTB (out), 20 INTA (out), 21 GPA0 (io), 22 GPA1 (io), 23 GPA2 (io), 24 GPA3 (io), 25 GPA4 (io), 26 GPA5 (io), 27 GPA6 (io), 28 GPA7 (io)

## MCP23017-E/SS
designator IC?
16-bit I/O Port Expander With Serial Interface
pins: 1 GPB0 (io), 2 GPB1 (io), 3 GPB2 (io), 4 GPB3 (io), 5 GPB4 (io), 6 GPB5 (io), 7 GPB6 (io), 8 GPB7 (io), 9 VDD (power), 10 VSS (power), 11 NC, 12 SCL (in), 13 SDA (io), 14 NC, 15 A0 (in), 16 A1 (in), 17 A2 (in), 18 ~{RESET} (in), 19 INTB (out), 20 INTA (out), 21 GPA0 (io), 22 GPA1 (io), 23 GPA2 (io), 24 GPA3 (io), 25 GPA4 (io), 26 GPA5 (io), 27 GPA6 (io), 28 GPA7 (io)

## MIC38HC4xYM
designator IC?
BiCMOS 1A Current-Mode PWM Controllers
pins: 1 COMP (in), 2 FB (in), 3 ISNS (in), 4 RC/CT (in), 5 GND (in), 6 OUT (out), 7 VDD (in), 8 VREF (out)